# Altium integrated library Microchip Microcontroller 8-Bit PIC16.IntLib: 1529 symbols (part 37 of 55)
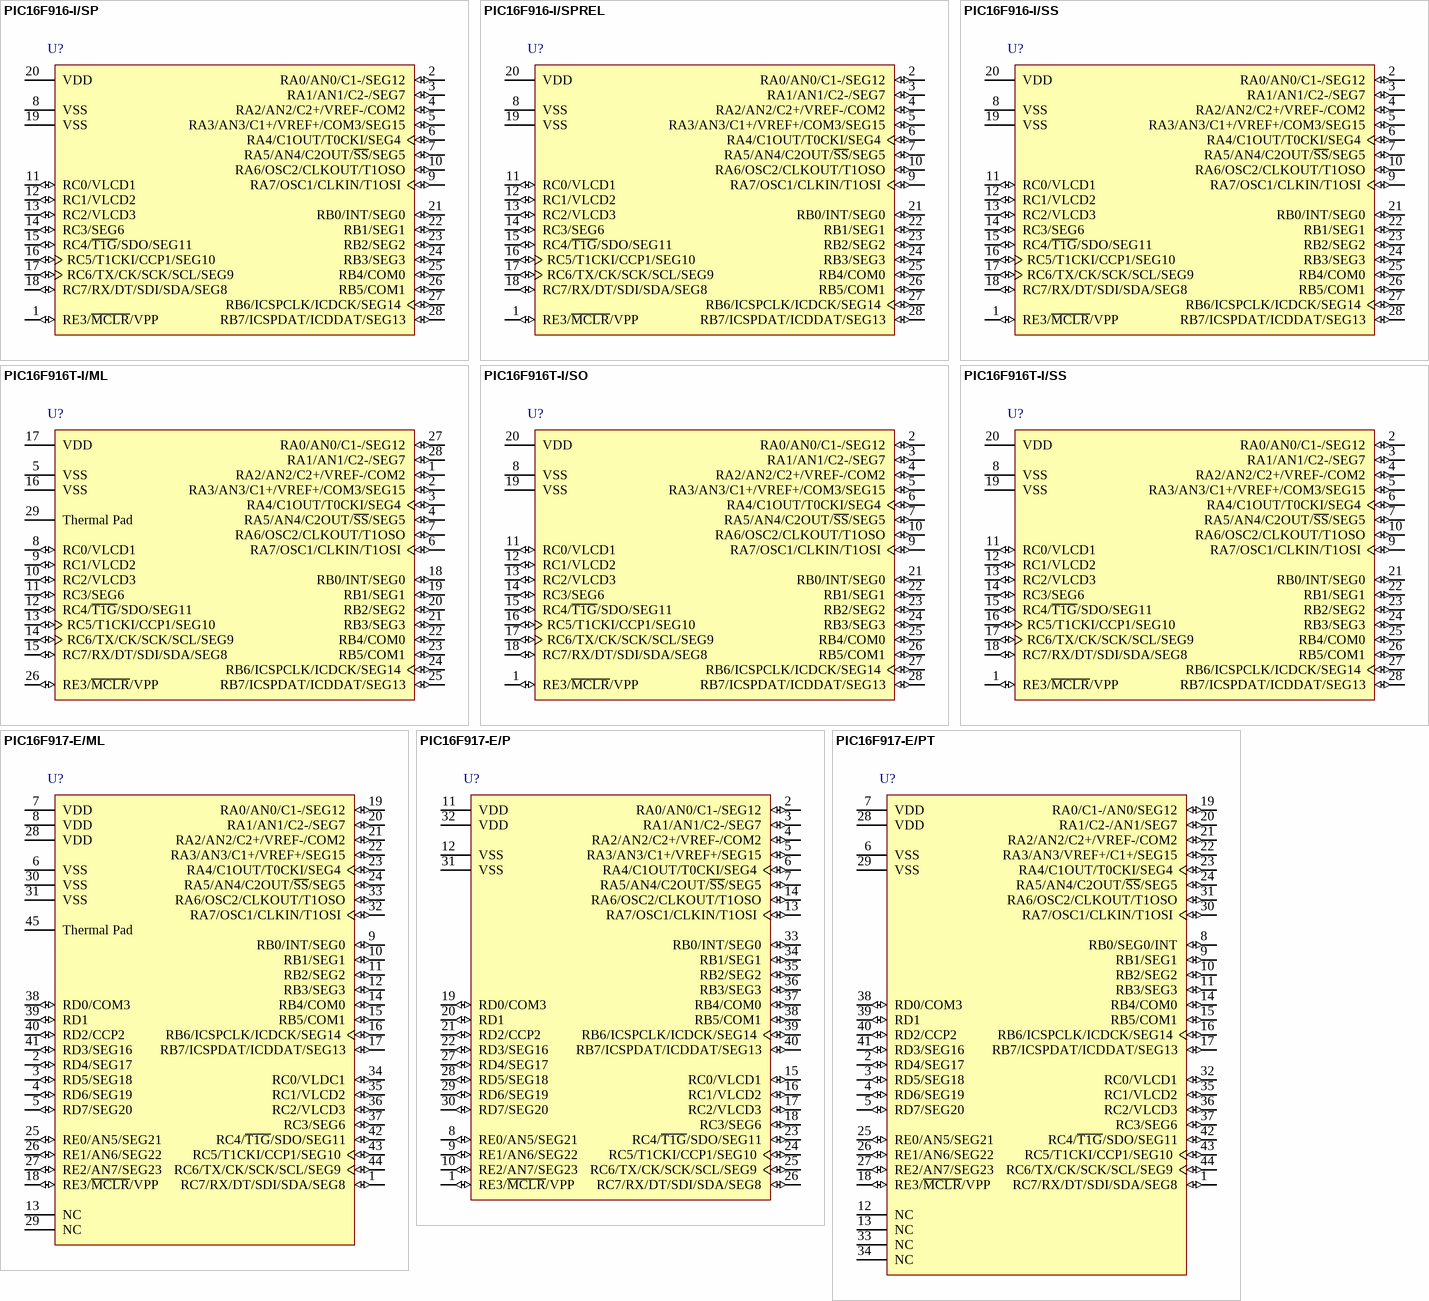
[diagram p154: symbols PIC16F916-I/SP to PIC16F917-E/PT]

## PIC16F917-E/ML
designator U?
Flash-Based, 8-Bit CMOS Microcontroller with LCD Driver and nanoWatt Technology, 8K (x14-Bit words) Program Memory, 608 Bytes Data Memory, 35 I/O pins, 44-Pin QFN, Standard VDD Range, Extended Temperature; Published: 29-Jan-2009; DatasheetVersion: revF, May-2007; PackageVersion: revBB, Aug-2009; PackageReference: QFN-ML44; Publisher: Altium Limited; PackageDescription: 44-Lead Plastic Quad Flat, No Lead Package (ML) - 8x8 mm Body [QFN]; Supplier 1: Digi-Key; Supplier Part Number 1: PIC16F917-E/ML-ND; Code_JEDEC: MO-220; Code_IPC: QFN65P800X800-44V2; ComponentLink1Description: Datasheet; ComponentLink1URL: http://ww1.microchip.com/downloads/en/DeviceDoc/41250F.pdf; ComponentLink2Description: Packaging Specification; ComponentLink2URL: http://www.microchip.com/stellent/groups/techpub_sg/documents/packagingspec/en012702.pdf; ComponentLink3Description: Microchip.com Home; ComponentLink3URL: http://www.microchip.com/
footprint QFN-ML44_N (QFN, 44-Leads, Body 8x8 mm, Pitch 0.65mm, IPC Medium Density)
footprint QFN-ML44_L (QFN, 44-Leads, Body 8x8 mm, Pitch 0.65mm, IPC High Density)
footprint QFN-ML44_M (QFN, 44-Leads, Body 8x8 mm, Pitch 0.65mm, IPC Low Density)
pins: 1 RC7/RX/DT/SDI/SDA/SEG8 (io), 2 RD4/SEG17 (io), 3 RD5/SEG18 (io), 4 RD6/SEG19 (io), 5 RD7/SEG20 (io), 6 VSS (power), 7 VDD (power), 8 VDD (power), 9 RB0/INT/SEG0 (io), 10 RB1/SEG1 (io), 11 RB2/SEG2 (io), 12 RB3/SEG3 (io), 13 NC, 14 RB4/COM0 (io), 15 RB5/COM1 (io), 16 RB6/ICSPCLK/ICDCK/SEG14 (io), 17 RB7/ICSPDAT/ICDDAT/SEG13 (io), 18 RE3/~{MCLR}/VPP (io), 19 RA0/AN0/C1-/SEG12 (io), 20 RA1/AN1/C2-/SEG7 (io), 21 RA2/AN2/C2+/VREF-/COM2 (io), 22 RA3/AN3/C1+/VREF+/SEG15 (io), 23 RA4/C1OUT/T0CKI/SEG4 (io), 24 RA5/AN4/C2OUT/~{SS}/SEG5 (io), 25 RE0/AN5/SEG21 (io), 26 RE1/AN6/SEG22 (io), 27 RE2/AN7/SEG23 (io), 28 VDD (power), 29 NC, 30 VSS (power), 31 VSS (power), 32 RA7/OSC1/CLKIN/T1OSI (io), 33 RA6/OSC2/CLKOUT/T1OSO (io), 34 RC0/VLDC1 (io), 35 RC1/VLCD2 (io), 36 RC2/VLCD3 (io), 37 RC3/SEG6 (io), 38 RD0/COM3 (io), 39 RD1 (io), 40 RD2/CCP2 (io), 41 RD3/SEG16 (io), 42 RC4/~{T1G}/SDO/SEG11 (io), 43 RC5/T1CKI/CCP1/SEG10 (io), 44 RC6/TX/CK/SCK/SCL/SEG9 (io), 45 Thermal Pad

## PIC16F917-E/P
designator U?
Flash-Based, 8-Bit CMOS Microcontroller with LCD Driver and nanoWatt Technology, 8K (x14-Bit words) Program Memory, 608 Bytes Data Memory, 35 I/O pins, 40-Pin PDIP, Standard VDD Range, Extended Temperature; Published: 29-Jan-2009; DatasheetVersion: revF, May-2007; PackageVersion: revBB, Aug-2009; PackageReference: PDIP600-P40; Publisher: Altium Limited; PackageDescription: 40-Lead Plastic Dual In-Line (P) - 600 mil Body [PDIP]; Supplier 1: Digi-Key; Supplier Part Number 1: PIC16F917-E/P-ND; ComponentLink1Description: Datasheet; ComponentLink1URL: http://ww1.microchip.com/downloads/en/DeviceDoc/41250F.pdf; ComponentLink2Description: Packaging Specification; ComponentLink2URL: http://www.microchip.com/stellent/groups/techpub_sg/documents/packagingspec/en012702.pdf; ComponentLink3Description: Microchip.com Home; ComponentLink3URL: http://www.microchip.com/
footprint PDIP600-P40 (DIP, 40-Leads, Row Spacing 15.24mm, Pitch 2.54mm, Body 51.8x13.5mm)
pins: 1 RE3/~{MCLR}/VPP (io), 2 RA0/AN0/C1-/SEG12 (io), 3 RA1/AN1/C2-/SEG7 (io), 4 RA2/AN2/C2+/VREF-/COM2 (io), 5 RA3/AN3/C1+/VREF+/SEG15 (io), 6 RA4/C1OUT/T0CKI/SEG4 (io), 7 RA5/AN4/C2OUT/~{SS}/SEG5 (io), 8 RE0/AN5/SEG21 (io), 9 RE1/AN6/SEG22 (io), 10 RE2/AN7/SEG23 (io), 11 VDD (power), 12 VSS (power), 13 RA7/OSC1/CLKIN/T1OSI (io), 14 RA6/OSC2/CLKOUT/T1OSO (io), 15 RC0/VLCD1 (io), 16 RC1/VLCD2 (io), 17 RC2/VLCD3 (io), 18 RC3/SEG6 (io), 19 RD0/COM3 (io), 20 RD1 (io), 21 RD2/CCP2 (io), 22 RD3/SEG16 (io), 23 RC4/~{T1G}/SDO/SEG11 (io), 24 RC5/T1CKI/CCP1/SEG10 (io), 25 RC6/TX/CK/SCK/SCL/SEG9 (io), 26 RC7/RX/DT/SDI/SDA/SEG8 (io), 27 RD4/SEG17 (io), 28 RD5/SEG18 (io), 29 RD6/SEG19 (io), 30 RD7/SEG20 (io), 31 VSS (power), 32 VDD (power), 33 RB0/INT/SEG0 (io), 34 RB1/SEG1 (io), 35 RB2/SEG2 (io), 36 RB3/SEG3 (io), 37 RB4/COM0 (io), 38 RB5/COM1 (io), 39 RB6/ICSPCLK/ICDCK/SEG14 (io), 40 RB7/ICSPDAT/ICDDAT/SEG13 (io)

## PIC16F917-E/PT
designator U?
Flash-Based, 8-Bit CMOS Microcontroller with LCD Driver and nanoWatt Technology, 8K (x14-Bit words) Program Memory, 608 Bytes Data Memory, 35 I/O pins, 44-Pin TQFP, Standard VDD Range, Extended Temperature; Published: 29-Jan-2009; DatasheetVersion: revF, May-2007; PackageVersion: revBB, Aug-2009; PackageReference: TQFP-PT44; Publisher: Altium Limited; PackageDescription: 44-Lead Plastic Thin Quad Flatpack (PT) - 10x10x1mm Body, 2.00mm [TQFP]; Supplier 1: Digi-Key; Supplier Part Number 1: PIC16F917-E/PT-ND; Code_JEDEC: MS-026; ComponentLink1Description: Datasheet; ComponentLink1URL: http://ww1.microchip.com/downloads/en/DeviceDoc/41250F.pdf; ComponentLink2Description: Packaging Specification; ComponentLink2URL: http://www.microchip.com/stellent/groups/techpub_sg/documents/packagingspec/en012702.pdf; ComponentLink3Description: Microchip.com Home; ComponentLink3URL: http://www.microchip.com/
footprint TQFP-PT44_N (Thin QFP, 44-Leads, Body 10x10mm, Pitch 0.8mm, IPC Medium Density)
footprint TQFP-PT44_L (Thin QFP, 44-Leads, Body 10x10mm, Pitch 0.8mm, IPC High Density)
footprint TQFP-PT44_M (Thin QFP, 44-Leads, Body 10x10mm, Pitch 0.8mm, IPC Low Density)
pins: 1 RC7/RX/DT/SDI/SDA/SEG8 (io), 2 RD4/SEG17 (io), 3 RD5/SEG18 (io), 4 RD6/SEG19 (io), 5 RD7/SEG20 (io), 6 VSS (power), 7 VDD (power), 8 RB0/SEG0/INT (io), 9 RB1/SEG1 (io), 10 RB2/SEG2 (io), 11 RB3/SEG3 (io), 12 NC, 13 NC, 14 RB4/COM0 (io), 15 RB5/COM1 (io), 16 RB6/ICSPCLK/ICDCK/SEG14 (io), 17 RB7/ICSPDAT/ICDDAT/SEG13 (io), 18 RE3/~{MCLR}/VPP (io), 19 RA0/C1-/AN0/SEG12 (io), 20 RA1/C2-/AN1/SEG7 (io), 21 RA2/AN2/C2+/VREF-/COM2 (io), 22 RA3/AN3/VREF+/C1+/SEG15 (io), 23 RA4/C1OUT/T0CKI/SEG4 (io), 24 RA5/AN4/C2OUT/~{SS}/SEG5 (io), 25 RE0/AN5/SEG21 (io), 26 RE1/AN6/SEG22 (io), 27 RE2/AN7/SEG23 (io), 28 VDD (power), 29 VSS (power), 30 RA7/OSC1/CLKIN/T1OSI (io), 31 RA6/OSC2/CLKOUT/T1OSO (io), 32 RC0/VLCD1 (io), 33 NC, 34 NC, 35 RC1/VLCD2 (io), 36 RC2/VLCD3 (io), 37 RC3/SEG6 (io), 38 RD0/COM3 (io), 39 RD1 (io), 40 RD2/CCP2 (io), 41 RD3/SEG16 (io), 42 RC4/~{T1G}/SDO/SEG11 (io), 43 RC5/T1CKI/CCP1/SEG10 (io), 44 RC6/TX/CK/SCK/SCL/SEG9 (io)

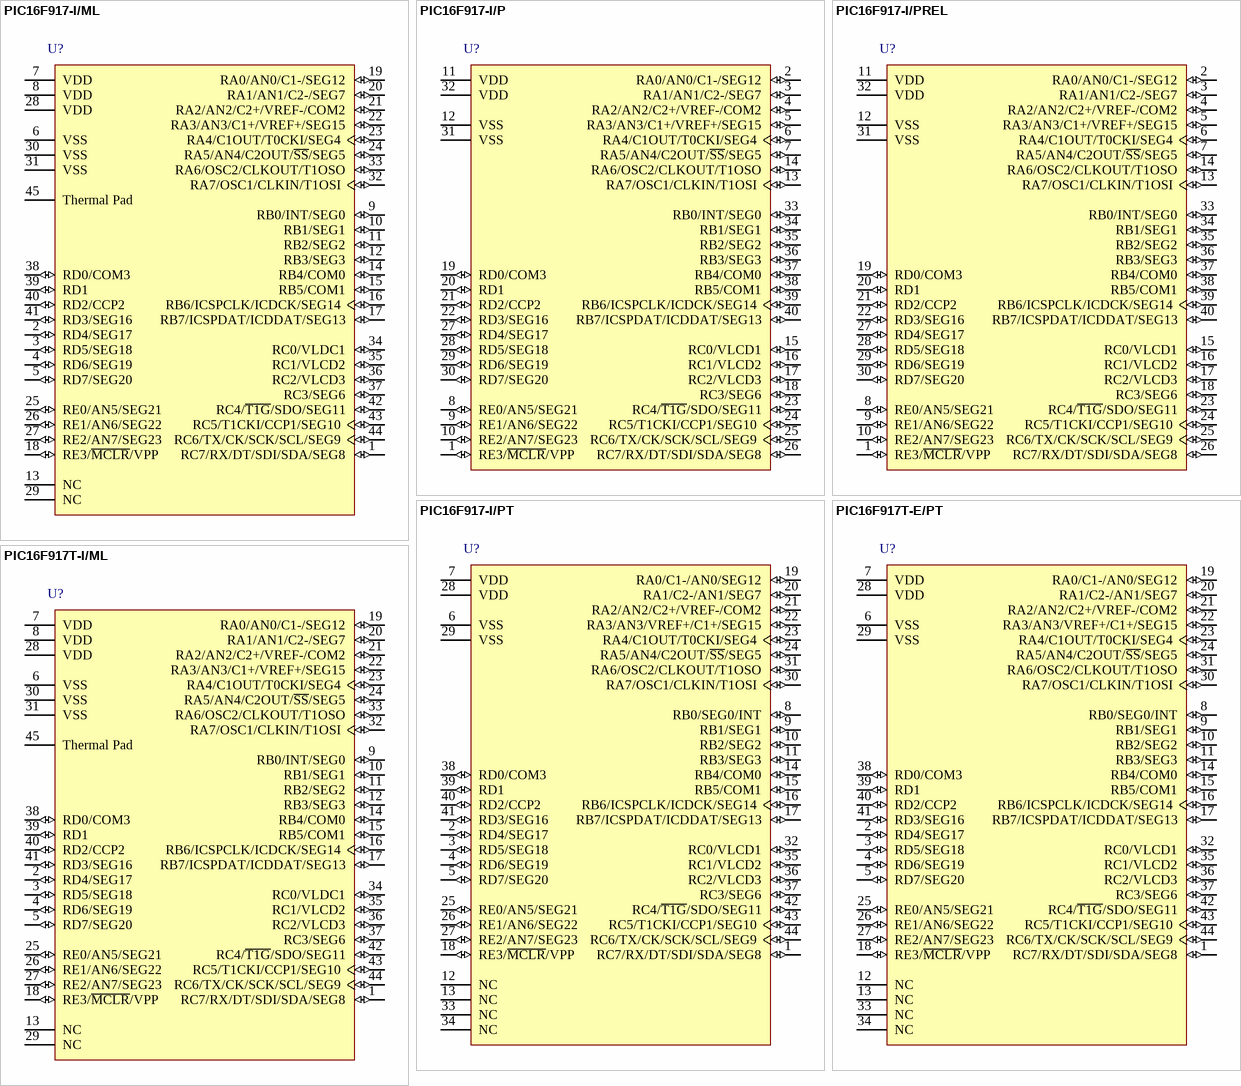
[diagram p75: symbols PIC16F917-I/ML to PIC16F917T-I/ML]

## PIC16F917-I/ML
designator U?
Flash-Based, 8-Bit CMOS Microcontroller with LCD Driver and nanoWatt Technology, 8K (x14-Bit words) Program Memory, 608 Bytes Data Memory, 35 I/O pins, 44-Pin QFN, Standard VDD Range, Industrial Temperature; Published: 29-Jan-2009; DatasheetVersion: revF, May-2007; PackageVersion: revBB, Aug-2009; PackageReference: QFN-ML44; Publisher: Altium Limited; PackageDescription: 44-Lead Plastic Quad Flat, No Lead Package (ML) - 8x8 mm Body [QFN]; Supplier 1: Digi-Key; Supplier Part Number 1: PIC16F917-I/ML-ND; Supplier 2: Farnell; Supplier Part Number 2: 1617660; Code_JEDEC: MO-220; Code_IPC: QFN65P800X800-44V2; ComponentLink1Description: Datasheet; ComponentLink1URL: http://ww1.microchip.com/downloads/en/DeviceDoc/41250F.pdf; ComponentLink2Description: Packaging Specification; ComponentLink2URL: http://www.microchip.com/stellent/groups/techpub_sg/documents/packagingspec/en012702.pdf; ComponentLink3Description: Microchip.com Home; ComponentLink3URL: http://www.microchip.com/
footprint QFN-ML44_N (QFN, 44-Leads, Body 8x8 mm, Pitch 0.65mm, IPC Medium Density)
footprint QFN-ML44_L (QFN, 44-Leads, Body 8x8 mm, Pitch 0.65mm, IPC High Density)
footprint QFN-ML44_M (QFN, 44-Leads, Body 8x8 mm, Pitch 0.65mm, IPC Low Density)
pins: 1 RC7/RX/DT/SDI/SDA/SEG8 (io), 2 RD4/SEG17 (io), 3 RD5/SEG18 (io), 4 RD6/SEG19 (io), 5 RD7/SEG20 (io), 6 VSS (power), 7 VDD (power), 8 VDD (power), 9 RB0/INT/SEG0 (io), 10 RB1/SEG1 (io), 11 RB2/SEG2 (io), 12 RB3/SEG3 (io), 13 NC, 14 RB4/COM0 (io), 15 RB5/COM1 (io), 16 RB6/ICSPCLK/ICDCK/SEG14 (io), 17 RB7/ICSPDAT/ICDDAT/SEG13 (io), 18 RE3/~{MCLR}/VPP (io), 19 RA0/AN0/C1-/SEG12 (io), 20 RA1/AN1/C2-/SEG7 (io), 21 RA2/AN2/C2+/VREF-/COM2 (io), 22 RA3/AN3/C1+/VREF+/SEG15 (io), 23 RA4/C1OUT/T0CKI/SEG4 (io), 24 RA5/AN4/C2OUT/~{SS}/SEG5 (io), 25 RE0/AN5/SEG21 (io), 26 RE1/AN6/SEG22 (io), 27 RE2/AN7/SEG23 (io), 28 VDD (power), 29 NC, 30 VSS (power), 31 VSS (power), 32 RA7/OSC1/CLKIN/T1OSI (io), 33 RA6/OSC2/CLKOUT/T1OSO (io), 34 RC0/VLDC1 (io), 35 RC1/VLCD2 (io), 36 RC2/VLCD3 (io), 37 RC3/SEG6 (io), 38 RD0/COM3 (io), 39 RD1 (io), 40 RD2/CCP2 (io), 41 RD3/SEG16 (io), 42 RC4/~{T1G}/SDO/SEG11 (io), 43 RC5/T1CKI/CCP1/SEG10 (io), 44 RC6/TX/CK/SCK/SCL/SEG9 (io), 45 Thermal Pad

## PIC16F917-I/P
designator U?
Flash-Based, 8-Bit CMOS Microcontroller with LCD Driver and nanoWatt Technology, 8K (x14-Bit words) Program Memory, 608 Bytes Data Memory, 35 I/O pins, 40-Pin PDIP, Standard VDD Range, Industrial Temperature; Published: 29-Jan-2009; DatasheetVersion: revF, May-2007; PackageVersion: revBB, Aug-2009; PackageReference: PDIP600-P40; Publisher: Altium Limited; PackageDescription: 40-Lead Plastic Dual In-Line (P) - 600 mil Body [PDIP]; Supplier 1: Digi-Key; Supplier Part Number 1: PIC16F917-I/P-ND; Supplier 2: Farnell; Supplier Part Number 2: 1292270; ComponentLink1Description: Datasheet; ComponentLink1URL: http://ww1.microchip.com/downloads/en/DeviceDoc/41250F.pdf; ComponentLink2Description: Packaging Specification; ComponentLink2URL: http://www.microchip.com/stellent/groups/techpub_sg/documents/packagingspec/en012702.pdf; ComponentLink3Description: Microchip.com Home; ComponentLink3URL: http://www.microchip.com/
footprint PDIP600-P40 (DIP, 40-Leads, Row Spacing 15.24mm, Pitch 2.54mm, Body 51.8x13.5mm)
pins: 1 RE3/~{MCLR}/VPP (io), 2 RA0/AN0/C1-/SEG12 (io), 3 RA1/AN1/C2-/SEG7 (io), 4 RA2/AN2/C2+/VREF-/COM2 (io), 5 RA3/AN3/C1+/VREF+/SEG15 (io), 6 RA4/C1OUT/T0CKI/SEG4 (io), 7 RA5/AN4/C2OUT/~{SS}/SEG5 (io), 8 RE0/AN5/SEG21 (io), 9 RE1/AN6/SEG22 (io), 10 RE2/AN7/SEG23 (io), 11 VDD (power), 12 VSS (power), 13 RA7/OSC1/CLKIN/T1OSI (io), 14 RA6/OSC2/CLKOUT/T1OSO (io), 15 RC0/VLCD1 (io), 16 RC1/VLCD2 (io), 17 RC2/VLCD3 (io), 18 RC3/SEG6 (io), 19 RD0/COM3 (io), 20 RD1 (io), 21 RD2/CCP2 (io), 22 RD3/SEG16 (io), 23 RC4/~{T1G}/SDO/SEG11 (io), 24 RC5/T1CKI/CCP1/SEG10 (io), 25 RC6/TX/CK/SCK/SCL/SEG9 (io), 26 RC7/RX/DT/SDI/SDA/SEG8 (io), 27 RD4/SEG17 (io), 28 RD5/SEG18 (io), 29 RD6/SEG19 (io), 30 RD7/SEG20 (io), 31 VSS (power), 32 VDD (power), 33 RB0/INT/SEG0 (io), 34 RB1/SEG1 (io), 35 RB2/SEG2 (io), 36 RB3/SEG3 (io), 37 RB4/COM0 (io), 38 RB5/COM1 (io), 39 RB6/ICSPCLK/ICDCK/SEG14 (io), 40 RB7/ICSPDAT/ICDDAT/SEG13 (io)

## PIC16F917-I/PREL
designator U?
Flash-Based, 8-Bit CMOS Microcontroller with LCD Driver and nanoWatt Technology, 8K (x14-Bit words) Program Memory, 608 Bytes Data Memory, 35 I/O pins, 40-Pin PDIP, Standard VDD Range, Industrial Temperature; ComponentAvailability: Unknown. Contact manufacturer to determine status.; Published: 29-Jan-2009; DatasheetVersion: revF, May-2007; PackageVersion: revBB, Aug-2009; PackageReference: PDIP600-P40; Publisher: Altium Limited; PackageDescription: 40-Lead Plastic Dual In-Line (P) - 600 mil Body [PDIP]; ComponentLink1Description: Datasheet; ComponentLink1URL: http://ww1.microchip.com/downloads/en/DeviceDoc/41250F.pdf; ComponentLink2Description: Packaging Specification; ComponentLink2URL: http://www.microchip.com/stellent/groups/techpub_sg/documents/packagingspec/en012702.pdf; ComponentLink3Description: Microchip.com Home; ComponentLink3URL: http://www.microchip.com/
footprint PDIP600-P40 (DIP, 40-Leads, Row Spacing 15.24mm, Pitch 2.54mm, Body 51.8x13.5mm)
pins: 1 RE3/~{MCLR}/VPP (io), 2 RA0/AN0/C1-/SEG12 (io), 3 RA1/AN1/C2-/SEG7 (io), 4 RA2/AN2/C2+/VREF-/COM2 (io), 5 RA3/AN3/C1+/VREF+/SEG15 (io), 6 RA4/C1OUT/T0CKI/SEG4 (io), 7 RA5/AN4/C2OUT/~{SS}/SEG5 (io), 8 RE0/AN5/SEG21 (io), 9 RE1/AN6/SEG22 (io), 10 RE2/AN7/SEG23 (io), 11 VDD (power), 12 VSS (power), 13 RA7/OSC1/CLKIN/T1OSI (io), 14 RA6/OSC2/CLKOUT/T1OSO (io), 15 RC0/VLCD1 (io), 16 RC1/VLCD2 (io), 17 RC2/VLCD3 (io), 18 RC3/SEG6 (io), 19 RD0/COM3 (io), 20 RD1 (io), 21 RD2/CCP2 (io), 22 RD3/SEG16 (io), 23 RC4/~{T1G}/SDO/SEG11 (io), 24 RC5/T1CKI/CCP1/SEG10 (io), 25 RC6/TX/CK/SCK/SCL/SEG9 (io), 26 RC7/RX/DT/SDI/SDA/SEG8 (io), 27 RD4/SEG17 (io), 28 RD5/SEG18 (io), 29 RD6/SEG19 (io), 30 RD7/SEG20 (io), 31 VSS (power), 32 VDD (power), 33 RB0/INT/SEG0 (io), 34 RB1/SEG1 (io), 35 RB2/SEG2 (io), 36 RB3/SEG3 (io), 37 RB4/COM0 (io), 38 RB5/COM1 (io), 39 RB6/ICSPCLK/ICDCK/SEG14 (io), 40 RB7/ICSPDAT/ICDDAT/SEG13 (io)

## PIC16F917-I/PT
designator U?
Flash-Based, 8-Bit CMOS Microcontroller with LCD Driver and nanoWatt Technology, 8K (x14-Bit words) Program Memory, 608 Bytes Data Memory, 35 I/O pins, 44-Pin TQFP, Standard VDD Range, Industrial Temperature; Published: 29-Jan-2009; DatasheetVersion: revF, May-2007; PackageVersion: revBB, Aug-2009; PackageReference: TQFP-PT44; Publisher: Altium Limited; PackageDescription: 44-Lead Plastic Thin Quad Flatpack (PT) - 10x10x1mm Body, 2.00mm [TQFP]; Supplier 1: Digi-Key; Supplier Part Number 1: PIC16F917-I/PT-ND; Supplier 2: Farnell; Supplier Part Number 2: 1528390; Supplier 3: Farnell; Supplier Part Number 3: 1292271; Code_JEDEC: MS-026; ComponentLink1Description: Datasheet; ComponentLink1URL: http://ww1.microchip.com/downloads/en/DeviceDoc/41250F.pdf; ComponentLink2Description: Packaging Specification; ComponentLink2URL: http://www.microchip.com/stellent/groups/techpub_sg/documents/packagingspec/en012702.pdf; ComponentLink3Description: Microchip.com Home; ComponentLink3URL: http://www.microchip.com/
footprint TQFP-PT44_N (Thin QFP, 44-Leads, Body 10x10mm, Pitch 0.8mm, IPC Medium Density)
footprint TQFP-PT44_L (Thin QFP, 44-Leads, Body 10x10mm, Pitch 0.8mm, IPC High Density)
footprint TQFP-PT44_M (Thin QFP, 44-Leads, Body 10x10mm, Pitch 0.8mm, IPC Low Density)
pins: 1 RC7/RX/DT/SDI/SDA/SEG8 (io), 2 RD4/SEG17 (io), 3 RD5/SEG18 (io), 4 RD6/SEG19 (io), 5 RD7/SEG20 (io), 6 VSS (power), 7 VDD (power), 8 RB0/SEG0/INT (io), 9 RB1/SEG1 (io), 10 RB2/SEG2 (io), 11 RB3/SEG3 (io), 12 NC, 13 NC, 14 RB4/COM0 (io), 15 RB5/COM1 (io), 16 RB6/ICSPCLK/ICDCK/SEG14 (io), 17 RB7/ICSPDAT/ICDDAT/SEG13 (io), 18 RE3/~{MCLR}/VPP (io), 19 RA0/C1-/AN0/SEG12 (io), 20 RA1/C2-/AN1/SEG7 (io), 21 RA2/AN2/C2+/VREF-/COM2 (io), 22 RA3/AN3/VREF+/C1+/SEG15 (io), 23 RA4/C1OUT/T0CKI/SEG4 (io), 24 RA5/AN4/C2OUT/~{SS}/SEG5 (io), 25 RE0/AN5/SEG21 (io), 26 RE1/AN6/SEG22 (io), 27 RE2/AN7/SEG23 (io), 28 VDD (power), 29 VSS (power), 30 RA7/OSC1/CLKIN/T1OSI (io), 31 RA6/OSC2/CLKOUT/T1OSO (io), 32 RC0/VLCD1 (io), 33 NC, 34 NC, 35 RC1/VLCD2 (io), 36 RC2/VLCD3 (io), 37 RC3/SEG6 (io), 38 RD0/COM3 (io), 39 RD1 (io), 40 RD2/CCP2 (io), 41 RD3/SEG16 (io), 42 RC4/~{T1G}/SDO/SEG11 (io), 43 RC5/T1CKI/CCP1/SEG10 (io), 44 RC6/TX/CK/SCK/SCL/SEG9 (io)

## PIC16F917T-E/PT
designator U?
Flash-Based, 8-Bit CMOS Microcontroller with LCD Driver and nanoWatt Technology, 8K (x14-Bit words) Program Memory, 608 Bytes Data Memory, 35 I/O pins, 44-Pin TQFP, Standard VDD Range, Extended Temperature, Tape and Reel; Published: 29-Jan-2009; DatasheetVersion: revF, May-2007; PackageVersion: revBB, Aug-2009; PackageReference: TQFP-PT44; Publisher: Altium Limited; PackageDescription: 44-Lead Plastic Thin Quad Flatpack (PT) - 10x10x1mm Body, 2.00mm [TQFP]; Code_JEDEC: MS-026; ComponentLink1Description: Datasheet; ComponentLink1URL: http://ww1.microchip.com/downloads/en/DeviceDoc/41250F.pdf; ComponentLink2Description: Packaging Specification; ComponentLink2URL: http://www.microchip.com/stellent/groups/techpub_sg/documents/packagingspec/en012702.pdf; ComponentLink3Description: Microchip.com Home; ComponentLink3URL: http://www.microchip.com/
footprint TQFP-PT44_N (Thin QFP, 44-Leads, Body 10x10mm, Pitch 0.8mm, IPC Medium Density)
footprint TQFP-PT44_L (Thin QFP, 44-Leads, Body 10x10mm, Pitch 0.8mm, IPC High Density)
footprint TQFP-PT44_M (Thin QFP, 44-Leads, Body 10x10mm, Pitch 0.8mm, IPC Low Density)
pins: 1 RC7/RX/DT/SDI/SDA/SEG8 (io), 2 RD4/SEG17 (io), 3 RD5/SEG18 (io), 4 RD6/SEG19 (io), 5 RD7/SEG20 (io), 6 VSS (power), 7 VDD (power), 8 RB0/SEG0/INT (io), 9 RB1/SEG1 (io), 10 RB2/SEG2 (io), 11 RB3/SEG3 (io), 12 NC, 13 NC, 14 RB4/COM0 (io), 15 RB5/COM1 (io), 16 RB6/ICSPCLK/ICDCK/SEG14 (io), 17 RB7/ICSPDAT/ICDDAT/SEG13 (io), 18 RE3/~{MCLR}/VPP (io), 19 RA0/C1-/AN0/SEG12 (io), 20 RA1/C2-/AN1/SEG7 (io), 21 RA2/AN2/C2+/VREF-/COM2 (io), 22 RA3/AN3/VREF+/C1+/SEG15 (io), 23 RA4/C1OUT/T0CKI/SEG4 (io), 24 RA5/AN4/C2OUT/~{SS}/SEG5 (io), 25 RE0/AN5/SEG21 (io), 26 RE1/AN6/SEG22 (io), 27 RE2/AN7/SEG23 (io), 28 VDD (power), 29 VSS (power), 30 RA7/OSC1/CLKIN/T1OSI (io), 31 RA6/OSC2/CLKOUT/T1OSO (io), 32 RC0/VLCD1 (io), 33 NC, 34 NC, 35 RC1/VLCD2 (io), 36 RC2/VLCD3 (io), 37 RC3/SEG6 (io), 38 RD0/COM3 (io), 39 RD1 (io), 40 RD2/CCP2 (io), 41 RD3/SEG16 (io), 42 RC4/~{T1G}/SDO/SEG11 (io), 43 RC5/T1CKI/CCP1/SEG10 (io), 44 RC6/TX/CK/SCK/SCL/SEG9 (io)

## PIC16F917T-I/ML
designator U?
Flash-Based, 8-Bit CMOS Microcontroller with LCD Driver and nanoWatt Technology, 8K (x14-Bit words) Program Memory, 608 Bytes Data Memory, 35 I/O pins, 44-Pin QFN, Standard VDD Range, Industrial Temperature, Tape and Reel; Published: 29-Jan-2009; DatasheetVersion: revF, May-2007; PackageVersion: revBB, Aug-2009; PackageReference: QFN-ML44; Publisher: Altium Limited; PackageDescription: 44-Lead Plastic Quad Flat, No Lead Package (ML) - 8x8 mm Body [QFN]; Supplier 1: Digi-Key; Supplier Part Number 1: PIC16F917T-I/ML-ND; Code_JEDEC: MO-220; Code_IPC: QFN65P800X800-44V2; ComponentLink1Description: Datasheet; ComponentLink1URL: http://ww1.microchip.com/downloads/en/DeviceDoc/41250F.pdf; ComponentLink2Description: Packaging Specification; ComponentLink2URL: http://www.microchip.com/stellent/groups/techpub_sg/documents/packagingspec/en012702.pdf; ComponentLink3Description: Microchip.com Home; ComponentLink3URL: http://www.microchip.com/
footprint QFN-ML44_N (QFN, 44-Leads, Body 8x8 mm, Pitch 0.65mm, IPC Medium Density)
footprint QFN-ML44_L (QFN, 44-Leads, Body 8x8 mm, Pitch 0.65mm, IPC High Density)
footprint QFN-ML44_M (QFN, 44-Leads, Body 8x8 mm, Pitch 0.65mm, IPC Low Density)
pins: 1 RC7/RX/DT/SDI/SDA/SEG8 (io), 2 RD4/SEG17 (io), 3 RD5/SEG18 (io), 4 RD6/SEG19 (io), 5 RD7/SEG20 (io), 6 VSS (power), 7 VDD (power), 8 VDD (power), 9 RB0/INT/SEG0 (io), 10 RB1/SEG1 (io), 11 RB2/SEG2 (io), 12 RB3/SEG3 (io), 13 NC, 14 RB4/COM0 (io), 15 RB5/COM1 (io), 16 RB6/ICSPCLK/ICDCK/SEG14 (io), 17 RB7/ICSPDAT/ICDDAT/SEG13 (io), 18 RE3/~{MCLR}/VPP (io), 19 RA0/AN0/C1-/SEG12 (io), 20 RA1/AN1/C2-/SEG7 (io), 21 RA2/AN2/C2+/VREF-/COM2 (io), 22 RA3/AN3/C1+/VREF+/SEG15 (io), 23 RA4/C1OUT/T0CKI/SEG4 (io), 24 RA5/AN4/C2OUT/~{SS}/SEG5 (io), 25 RE0/AN5/SEG21 (io), 26 RE1/AN6/SEG22 (io), 27 RE2/AN7/SEG23 (io), 28 VDD (power), 29 NC, 30 VSS (power), 31 VSS (power), 32 RA7/OSC1/CLKIN/T1OSI (io), 33 RA6/OSC2/CLKOUT/T1OSO (io), 34 RC0/VLDC1 (io), 35 RC1/VLCD2 (io), 36 RC2/VLCD3 (io), 37 RC3/SEG6 (io), 38 RD0/COM3 (io), 39 RD1 (io), 40 RD2/CCP2 (io), 41 RD3/SEG16 (io), 42 RC4/~{T1G}/SDO/SEG11 (io), 43 RC5/T1CKI/CCP1/SEG10 (io), 44 RC6/TX/CK/SCK/SCL/SEG9 (io), 45 Thermal Pad

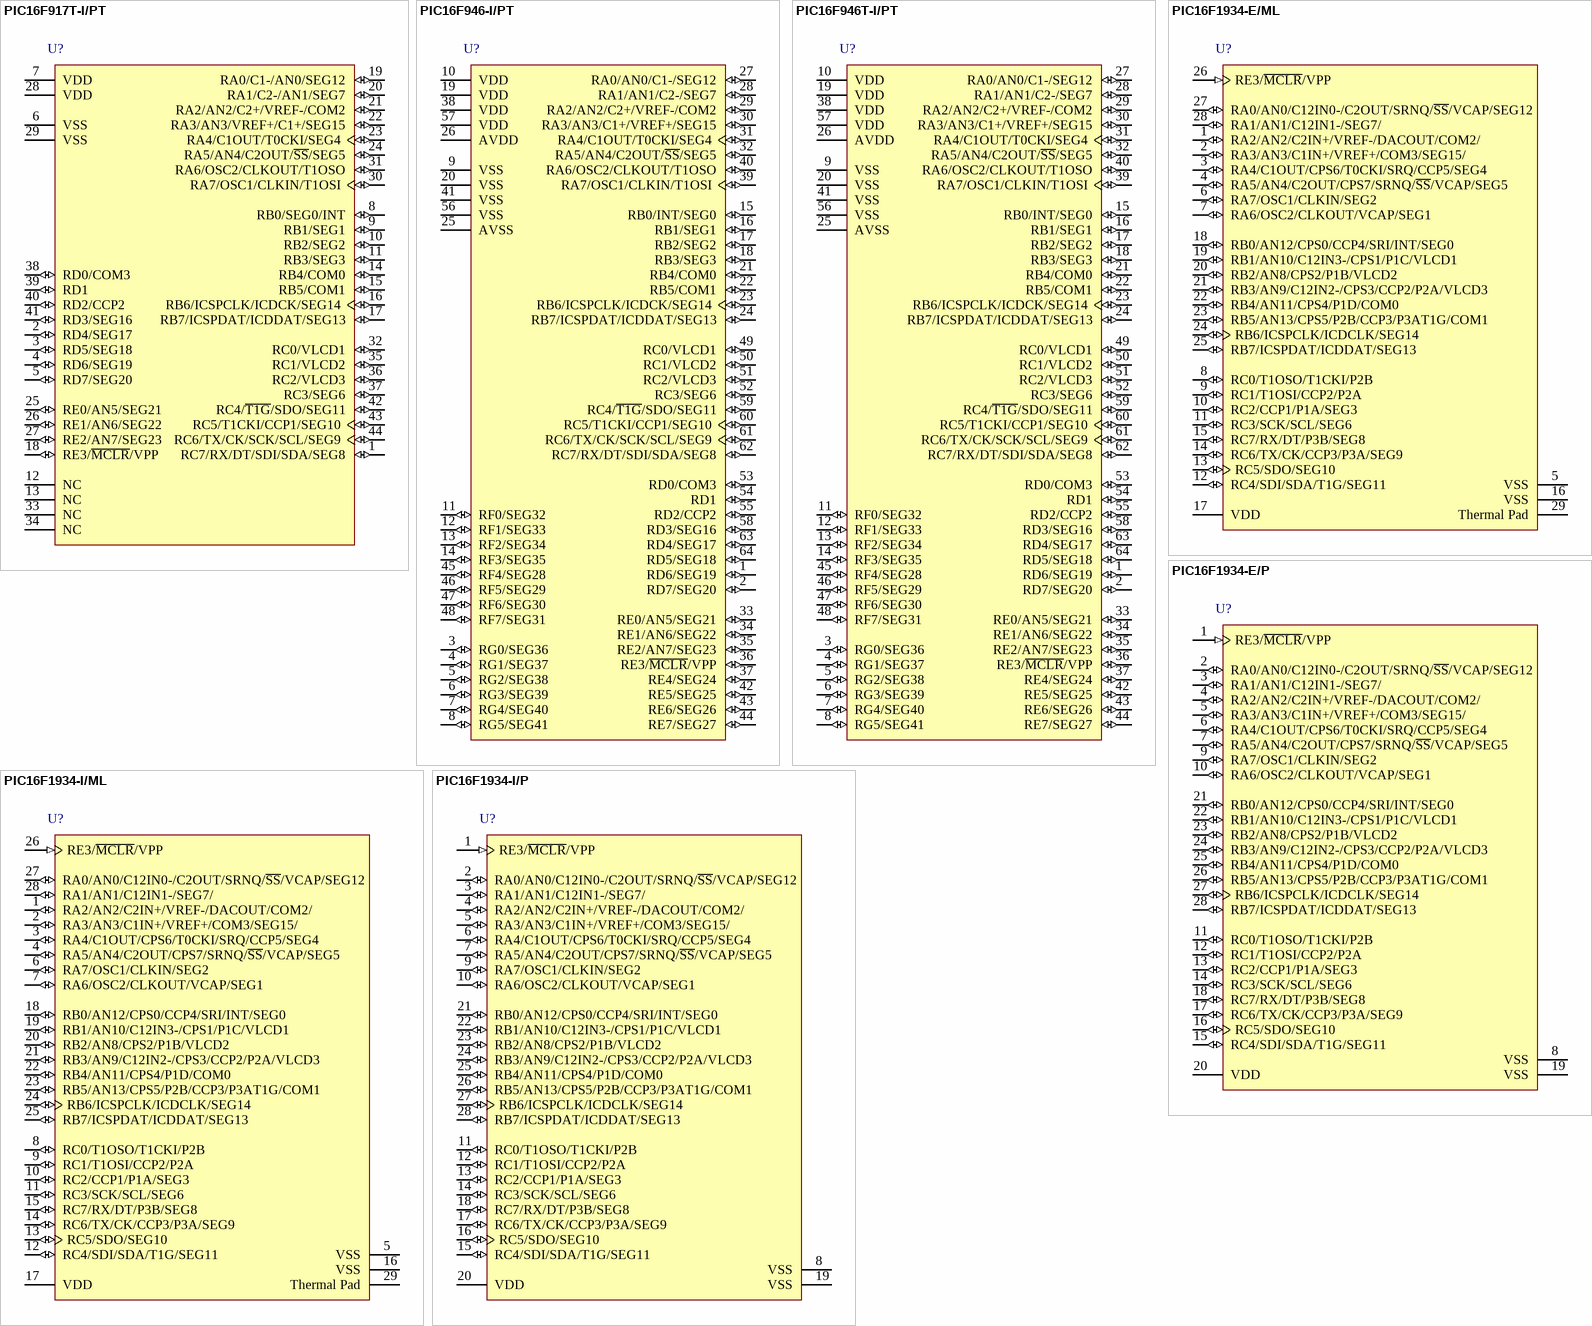
[diagram p76: symbols PIC16F917T-I/PT to PIC16F1934-I/P]

## PIC16F917T-I/PT
designator U?
Flash-Based, 8-Bit CMOS Microcontroller with LCD Driver and nanoWatt Technology, 8K (x14-Bit words) Program Memory, 608 Bytes Data Memory, 35 I/O pins, 44-Pin TQFP, Standard VDD Range, Industrial Temperature, Tape and Reel; Published: 29-Jan-2009; DatasheetVersion: revF, May-2007; PackageVersion: revBB, Aug-2009; PackageReference: TQFP-PT44; Publisher: Altium Limited; PackageDescription: 44-Lead Plastic Thin Quad Flatpack (PT) - 10x10x1mm Body, 2.00mm [TQFP]; Supplier 1: Digi-Key; Supplier Part Number 1: PIC16F917T-I/PT-ND; Code_JEDEC: MS-026; ComponentLink1Description: Datasheet; ComponentLink1URL: http://ww1.microchip.com/downloads/en/DeviceDoc/41250F.pdf; ComponentLink2Description: Packaging Specification; ComponentLink2URL: http://www.microchip.com/stellent/groups/techpub_sg/documents/packagingspec/en012702.pdf; ComponentLink3Description: Microchip.com Home; ComponentLink3URL: http://www.microchip.com/
footprint TQFP-PT44_N (Thin QFP, 44-Leads, Body 10x10mm, Pitch 0.8mm, IPC Medium Density)
footprint TQFP-PT44_L (Thin QFP, 44-Leads, Body 10x10mm, Pitch 0.8mm, IPC High Density)
footprint TQFP-PT44_M (Thin QFP, 44-Leads, Body 10x10mm, Pitch 0.8mm, IPC Low Density)
pins: 1 RC7/RX/DT/SDI/SDA/SEG8 (io), 2 RD4/SEG17 (io), 3 RD5/SEG18 (io), 4 RD6/SEG19 (io), 5 RD7/SEG20 (io), 6 VSS (power), 7 VDD (power), 8 RB0/SEG0/INT (io), 9 RB1/SEG1 (io), 10 RB2/SEG2 (io), 11 RB3/SEG3 (io), 12 NC, 13 NC, 14 RB4/COM0 (io), 15 RB5/COM1 (io), 16 RB6/ICSPCLK/ICDCK/SEG14 (io), 17 RB7/ICSPDAT/ICDDAT/SEG13 (io), 18 RE3/~{MCLR}/VPP (io), 19 RA0/C1-/AN0/SEG12 (io), 20 RA1/C2-/AN1/SEG7 (io), 21 RA2/AN2/C2+/VREF-/COM2 (io), 22 RA3/AN3/VREF+/C1+/SEG15 (io), 23 RA4/C1OUT/T0CKI/SEG4 (io), 24 RA5/AN4/C2OUT/~{SS}/SEG5 (io), 25 RE0/AN5/SEG21 (io), 26 RE1/AN6/SEG22 (io), 27 RE2/AN7/SEG23 (io), 28 VDD (power), 29 VSS (power), 30 RA7/OSC1/CLKIN/T1OSI (io), 31 RA6/OSC2/CLKOUT/T1OSO (io), 32 RC0/VLCD1 (io), 33 NC, 34 NC, 35 RC1/VLCD2 (io), 36 RC2/VLCD3 (io), 37 RC3/SEG6 (io), 38 RD0/COM3 (io), 39 RD1 (io), 40 RD2/CCP2 (io), 41 RD3/SEG16 (io), 42 RC4/~{T1G}/SDO/SEG11 (io), 43 RC5/T1CKI/CCP1/SEG10 (io), 44 RC6/TX/CK/SCK/SCL/SEG9 (io)

## PIC16F946-I/PT
designator U?
Flash-Based, 8-Bit CMOS Microcontroller with LCD Driver and nanoWatt Technology, 8K (x14-Bit words) Program Memory, 592 Bytes Data Memory, 53 I/O pins, 64-Pin TQFP, Standard VDD Range, Industrial Temperature; Published: 29-Jan-2009; DatasheetVersion: revF, May-2007; PackageVersion: revBB, Aug-2009; PackageReference: TQFP-PT64; Publisher: Altium Limited; PackageDescription: 64-Lead Thin Plastic Quad Flat Pack (PT) - 10x10x1mm Body, 2.00mm [TQFP]; Supplier 1: Digi-Key; Supplier Part Number 1: PIC16F946-I/PT-ND; Supplier 2: Farnell; Supplier Part Number 2: 1332219; Code_JEDEC: MS-026; ComponentLink1Description: Datasheet; ComponentLink1URL: http://ww1.microchip.com/downloads/en/DeviceDoc/41250F.pdf; ComponentLink2Description: Packaging Specification; ComponentLink2URL: http://www.microchip.com/stellent/groups/techpub_sg/documents/packagingspec/en012702.pdf; ComponentLink3Description: Microchip.com Home; ComponentLink3URL: http://www.microchip.com/
footprint TQFP-PT64_N (Thin QFP, 64-Leads, Body 10x10mm, Pitch 0.5mm, IPC Medium Density)
footprint TQFP-PT64_L (Thin QFP, 64-Leads, Body 10x10mm, Pitch 0.5mm, IPC High Density)
footprint TQFP-PT64_M (Thin QFP, 64-Leads, Body 10x10mm, Pitch 0.5mm, IPC Low Density)
pins: 1 RD6/SEG19 (io), 2 RD7/SEG20 (io), 3 RG0/SEG36 (io), 4 RG1/SEG37 (io), 5 RG2/SEG38 (io), 6 RG3/SEG39 (io), 7 RG4/SEG40 (io), 8 RG5/SEG41 (io), 9 VSS (power), 10 VDD (power), 11 RF0/SEG32 (io), 12 RF1/SEG33 (io), 13 RF2/SEG34 (io), 14 RF3/SEG35 (io), 15 RB0/INT/SEG0 (io), 16 RB1/SEG1 (io), 17 RB2/SEG2 (io), 18 RB3/SEG3 (io), 19 VDD (power), 20 VSS (power), 21 RB4/COM0 (io), 22 RB5/COM1 (io), 23 RB6/ICSPCLK/ICDCK/SEG14 (io), 24 RB7/ICSPDAT/ICDDAT/SEG13 (io), 25 AVSS (power), 26 AVDD (power), 27 RA0/AN0/C1-/SEG12 (io), 28 RA1/AN1/C2-/SEG7 (io), 29 RA2/AN2/C2+/VREF-/COM2 (io), 30 RA3/AN3/C1+/VREF+/SEG15 (io), 31 RA4/C1OUT/T0CKI/SEG4 (io), 32 RA5/AN4/C2OUT/~{SS}/SEG5 (io), 33 RE0/AN5/SEG21 (io), 34 RE1/AN6/SEG22 (io), 35 RE2/AN7/SEG23 (io), 36 RE3/~{MCLR}/VPP (io), 37 RE4/SEG24 (io), 38 VDD (power), 39 RA7/OSC1/CLKIN/T1OSI (io), 40 RA6/OSC2/CLKOUT/T1OSO (io), 41 VSS (power), 42 RE5/SEG25 (io), 43 RE6/SEG26 (io), 44 RE7/SEG27 (io), 45 RF4/SEG28 (io), 46 RF5/SEG29 (io), 47 RF6/SEG30 (io), 48 RF7/SEG31 (io), 49 RC0/VLCD1 (io), 50 RC1/VLCD2 (io), 51 RC2/VLCD3 (io), 52 RC3/SEG6 (io), 53 RD0/COM3 (io), 54 RD1 (io), 55 RD2/CCP2 (io), 56 VSS (power), 57 VDD (power), 58 RD3/SEG16 (io), 59 RC4/~{T1G}/SDO/SEG11 (io), 60 RC5/T1CKI/CCP1/SEG10 (io), 61 RC6/TX/CK/SCK/SCL/SEG9 (io), 62 RC7/RX/DT/SDI/SDA/SEG8 (io), 63 RD4/SEG17 (io), 64 RD5/SEG18 (io)

## PIC16F946T-I/PT
designator U?
Flash-Based, 8-Bit CMOS Microcontroller with LCD Driver and nanoWatt Technology, 8K (x14-Bit words) Program Memory, 592 Bytes Data Memory, 53 I/O pins, 64-Pin TQFP, Standard VDD Range, Industrial Temperature, Tape and Reel; Published: 29-Jan-2009; DatasheetVersion: revF, May-2007; PackageVersion: revBB, Aug-2009; PackageReference: TQFP-PT64; Publisher: Altium Limited; PackageDescription: 64-Lead Thin Plastic Quad Flat Pack (PT) - 10x10x1mm Body, 2.00mm [TQFP]; Supplier 1: Digi-Key; Supplier Part Number 1: PIC16F946T-I/PT-ND; Code_JEDEC: MS-026; ComponentLink1Description: Datasheet; ComponentLink1URL: http://ww1.microchip.com/downloads/en/DeviceDoc/41250F.pdf; ComponentLink2Description: Packaging Specification; ComponentLink2URL: http://www.microchip.com/stellent/groups/techpub_sg/documents/packagingspec/en012702.pdf; ComponentLink3Description: Microchip.com Home; ComponentLink3URL: http://www.microchip.com/
footprint TQFP-PT64_N (Thin QFP, 64-Leads, Body 10x10mm, Pitch 0.5mm, IPC Medium Density)
footprint TQFP-PT64_L (Thin QFP, 64-Leads, Body 10x10mm, Pitch 0.5mm, IPC High Density)
footprint TQFP-PT64_M (Thin QFP, 64-Leads, Body 10x10mm, Pitch 0.5mm, IPC Low Density)
pins: 1 RD6/SEG19 (io), 2 RD7/SEG20 (io), 3 RG0/SEG36 (io), 4 RG1/SEG37 (io), 5 RG2/SEG38 (io), 6 RG3/SEG39 (io), 7 RG4/SEG40 (io), 8 RG5/SEG41 (io), 9 VSS (power), 10 VDD (power), 11 RF0/SEG32 (io), 12 RF1/SEG33 (io), 13 RF2/SEG34 (io), 14 RF3/SEG35 (io), 15 RB0/INT/SEG0 (io), 16 RB1/SEG1 (io), 17 RB2/SEG2 (io), 18 RB3/SEG3 (io), 19 VDD (power), 20 VSS (power), 21 RB4/COM0 (io), 22 RB5/COM1 (io), 23 RB6/ICSPCLK/ICDCK/SEG14 (io), 24 RB7/ICSPDAT/ICDDAT/SEG13 (io), 25 AVSS (power), 26 AVDD (power), 27 RA0/AN0/C1-/SEG12 (io), 28 RA1/AN1/C2-/SEG7 (io), 29 RA2/AN2/C2+/VREF-/COM2 (io), 30 RA3/AN3/C1+/VREF+/SEG15 (io), 31 RA4/C1OUT/T0CKI/SEG4 (io), 32 RA5/AN4/C2OUT/~{SS}/SEG5 (io), 33 RE0/AN5/SEG21 (io), 34 RE1/AN6/SEG22 (io), 35 RE2/AN7/SEG23 (io), 36 RE3/~{MCLR}/VPP (io), 37 RE4/SEG24 (io), 38 VDD (power), 39 RA7/OSC1/CLKIN/T1OSI (io), 40 RA6/OSC2/CLKOUT/T1OSO (io), 41 VSS (power), 42 RE5/SEG25 (io), 43 RE6/SEG26 (io), 44 RE7/SEG27 (io), 45 RF4/SEG28 (io), 46 RF5/SEG29 (io), 47 RF6/SEG30 (io), 48 RF7/SEG31 (io), 49 RC0/VLCD1 (io), 50 RC1/VLCD2 (io), 51 RC2/VLCD3 (io), 52 RC3/SEG6 (io), 53 RD0/COM3 (io), 54 RD1 (io), 55 RD2/CCP2 (io), 56 VSS (power), 57 VDD (power), 58 RD3/SEG16 (io), 59 RC4/~{T1G}/SDO/SEG11 (io), 60 RC5/T1CKI/CCP1/SEG10 (io), 61 RC6/TX/CK/SCK/SCL/SEG9 (io), 62 RC7/RX/DT/SDI/SDA/SEG8 (io), 63 RD4/SEG17 (io), 64 RD5/SEG18 (io)

## PIC16F1934-E/ML
designator U?
CMOS Microcontroller with LCD Driver, 4K (words) Program Memory, 256 Bytes Data Memory, 256 Bytes SRAM, 25 I/O's, 28-Pin QFN, Extended Temperature; Published: 40149; DatasheetVersion: revC, Sep-2009; PackageVersion: revBB, Aug-2009; PackageReference: QFN-ML28; Publisher: Altium Limited; PackageDescription: 28-Lead Plastic Quad Flat, No Lead Package (ML) - 6x6 mm Body [QFN] with 0.55 mm Contact Length; Supplier 1: Digi-Key; Supplier Part Number 1: PIC16F1934-E/ML-ND; Code_JEDEC: MO-220; Code_IPC: QFN65P600X600-28V; ComponentLink1Description: Datasheet; ComponentLink1URL: http://ww1.microchip.com/downloads/en/DeviceDoc/41364C.pdf; ComponentLink2Description: Packaging Specification; ComponentLink2URL: http://www.microchip.com/stellent/groups/techpub_sg/documents/packagingspec/en012702.pdf; ComponentLink3Description: Microchip.com Home; ComponentLink3URL: http://www.microchip.com/
footprint QFN-ML28_N (QFN, 28-Leads, Body 6x6 mm, Pitch 0.65mm, IPC Medium Density)
footprint QFN-ML28_L (QFN, 28-Leads, Body 6x6 mm, Pitch 0.65mm, IPC High Density)
footprint QFN-ML28_M (QFN, 28-Leads, Body 6x6 mm, Pitch 0.65mm, IPC Low Density)
pins: 1 RA2/AN2/C2IN+/VREF-/DACOUT/COM2/ (io), 2 RA3/AN3/C1IN+/VREF+/COM3/SEG15/ (io), 3 RA4/C1OUT/CPS6/T0CKI/SRQ/CCP5/SEG4 (io), 4 RA5/AN4/C2OUT/CPS7/SRNQ/~{SS}/VCAP/SEG5 (io), 5 VSS (power), 6 RA7/OSC1/CLKIN/SEG2 (io), 7 RA6/OSC2/CLKOUT/VCAP/SEG1 (io), 8 RC0/T1OSO/T1CKI/P2B (io), 9 RC1/T1OSI/CCP2/P2A (io), 10 RC2/CCP1/P1A/SEG3 (io), 11 RC3/SCK/SCL/SEG6 (io), 12 RC4/SDI/SDA/T1G/SEG11 (io), 13 RC5/SDO/SEG10 (io), 14 RC6/TX/CK/CCP3/P3A/SEG9 (io), 15 RC7/RX/DT/P3B/SEG8 (io), 16 VSS (power), 17 VDD (power), 18 RB0/AN12/CPS0/CCP4/SRI/INT/SEG0 (io), 19 RB1/AN10/C12IN3-/CPS1/P1C/VLCD1 (io), 20 RB2/AN8/CPS2/P1B/VLCD2 (io), 21 RB3/AN9/C12IN2-/CPS3/CCP2/P2A/VLCD3 (io), 22 RB4/AN11/CPS4/P1D/COM0 (io), 23 RB5/AN13/CPS5/P2B/CCP3/P3AT1G/COM1 (io), 24 RB6/ICSPCLK/ICDCLK/SEG14 (io), 25 RB7/ICSPDAT/ICDDAT/SEG13 (io), 26 RE3/~{MCLR}/VPP (in), 27 RA0/AN0/C12IN0-/C2OUT/SRNQ/~{SS}/VCAP/SEG12 (io), 28 RA1/AN1/C12IN1-/SEG7/ (io), 29 Thermal Pad

## PIC16F1934-E/P
designator U?
CMOS Microcontroller with LCD Driver, 4K (words) Program Memory, 256 Bytes Data Memory, 256 Bytes SRAM, 25 I/O's, 28-Pin PDIP, Extended Temperature; Published: 40149; LatestRevisionDate: 11-Aug-2010; LatestRevisionNote: Sch. layout revised.; DatasheetVersion: revC, Sep-2009; PackageVersion: revBB, Aug-2009; PackageReference: PDIP600-P28; Publisher: Altium Limited; PackageDescription: 28-Lead Plastic Dual In-Line (P) - 600 mil Body [PDIP]; Supplier 1: Digi-Key; Supplier Part Number 1: PIC16F1934-E/P-ND; Code_JEDEC: MO-011; ComponentLink1Description: Datasheet; ComponentLink1URL: http://ww1.microchip.com/downloads/en/DeviceDoc/41364C.pdf; ComponentLink2Description: Packaging Specification; ComponentLink2URL: http://www.microchip.com/stellent/groups/techpub_sg/documents/packagingspec/en012702.pdf; ComponentLink3Description: Microchip.com Home; ComponentLink3URL: http://www.microchip.com/
footprint PDIP600-P28 (DIP, 28-Leads, Row Spacing 15.24mm, Pitch 2.54mm, Body 37.4x13.5mm)
pins: 1 RE3/~{MCLR}/VPP (in), 2 RA0/AN0/C12IN0-/C2OUT/SRNQ/~{SS}/VCAP/SEG12 (io), 3 RA1/AN1/C12IN1-/SEG7/ (io), 4 RA2/AN2/C2IN+/VREF-/DACOUT/COM2/ (io), 5 RA3/AN3/C1IN+/VREF+/COM3/SEG15/ (io), 6 RA4/C1OUT/CPS6/T0CKI/SRQ/CCP5/SEG4 (io), 7 RA5/AN4/C2OUT/CPS7/SRNQ/~{SS}/VCAP/SEG5 (io), 8 VSS (power), 9 RA7/OSC1/CLKIN/SEG2 (io), 10 RA6/OSC2/CLKOUT/VCAP/SEG1 (io), 11 RC0/T1OSO/T1CKI/P2B (io), 12 RC1/T1OSI/CCP2/P2A (io), 13 RC2/CCP1/P1A/SEG3 (io), 14 RC3/SCK/SCL/SEG6 (io), 15 RC4/SDI/SDA/T1G/SEG11 (io), 16 RC5/SDO/SEG10 (io), 17 RC6/TX/CK/CCP3/P3A/SEG9 (io), 18 RC7/RX/DT/P3B/SEG8 (io), 19 VSS (power), 20 VDD (power), 21 RB0/AN12/CPS0/CCP4/SRI/INT/SEG0 (io), 22 RB1/AN10/C12IN3-/CPS1/P1C/VLCD1 (io), 23 RB2/AN8/CPS2/P1B/VLCD2 (io), 24 RB3/AN9/C12IN2-/CPS3/CCP2/P2A/VLCD3 (io), 25 RB4/AN11/CPS4/P1D/COM0 (io), 26 RB5/AN13/CPS5/P2B/CCP3/P3AT1G/COM1 (io), 27 RB6/ICSPCLK/ICDCLK/SEG14 (io), 28 RB7/ICSPDAT/ICDDAT/SEG13 (io)

## PIC16F1934-I/ML
designator U?
CMOS Microcontroller with LCD Driver, 4K (words) Program Memory, 256 Bytes Data Memory, 256 Bytes SRAM, 25 I/O's, 28-Pin QFN, Industrial Temperature; Published: 40149; DatasheetVersion: revC, Sep-2009; PackageVersion: revBB, Aug-2009; PackageReference: QFN-ML28; Publisher: Altium Limited; PackageDescription: 28-Lead Plastic Quad Flat, No Lead Package (ML) - 6x6 mm Body [QFN] with 0.55 mm Contact Length; Supplier 1: Digi-Key; Supplier Part Number 1: PIC16F1934-I/ML-ND; Supplier 2: Farnell; Supplier Part Number 2: 1755816; Code_JEDEC: MO-220; Code_IPC: QFN65P600X600-28V; ComponentLink1Description: Datasheet; ComponentLink1URL: http://ww1.microchip.com/downloads/en/DeviceDoc/41364C.pdf; ComponentLink2Description: Packaging Specification; ComponentLink2URL: http://www.microchip.com/stellent/groups/techpub_sg/documents/packagingspec/en012702.pdf; ComponentLink3Description: Microchip.com Home; ComponentLink3URL: http://www.microchip.com/
footprint QFN-ML28_N (QFN, 28-Leads, Body 6x6 mm, Pitch 0.65mm, IPC Medium Density)
footprint QFN-ML28_L (QFN, 28-Leads, Body 6x6 mm, Pitch 0.65mm, IPC High Density)
footprint QFN-ML28_M (QFN, 28-Leads, Body 6x6 mm, Pitch 0.65mm, IPC Low Density)
pins: 1 RA2/AN2/C2IN+/VREF-/DACOUT/COM2/ (io), 2 RA3/AN3/C1IN+/VREF+/COM3/SEG15/ (io), 3 RA4/C1OUT/CPS6/T0CKI/SRQ/CCP5/SEG4 (io), 4 RA5/AN4/C2OUT/CPS7/SRNQ/~{SS}/VCAP/SEG5 (io), 5 VSS (power), 6 RA7/OSC1/CLKIN/SEG2 (io), 7 RA6/OSC2/CLKOUT/VCAP/SEG1 (io), 8 RC0/T1OSO/T1CKI/P2B (io), 9 RC1/T1OSI/CCP2/P2A (io), 10 RC2/CCP1/P1A/SEG3 (io), 11 RC3/SCK/SCL/SEG6 (io), 12 RC4/SDI/SDA/T1G/SEG11 (io), 13 RC5/SDO/SEG10 (io), 14 RC6/TX/CK/CCP3/P3A/SEG9 (io), 15 RC7/RX/DT/P3B/SEG8 (io), 16 VSS (power), 17 VDD (power), 18 RB0/AN12/CPS0/CCP4/SRI/INT/SEG0 (io), 19 RB1/AN10/C12IN3-/CPS1/P1C/VLCD1 (io), 20 RB2/AN8/CPS2/P1B/VLCD2 (io), 21 RB3/AN9/C12IN2-/CPS3/CCP2/P2A/VLCD3 (io), 22 RB4/AN11/CPS4/P1D/COM0 (io), 23 RB5/AN13/CPS5/P2B/CCP3/P3AT1G/COM1 (io), 24 RB6/ICSPCLK/ICDCLK/SEG14 (io), 25 RB7/ICSPDAT/ICDDAT/SEG13 (io), 26 RE3/~{MCLR}/VPP (in), 27 RA0/AN0/C12IN0-/C2OUT/SRNQ/~{SS}/VCAP/SEG12 (io), 28 RA1/AN1/C12IN1-/SEG7/ (io), 29 Thermal Pad

## PIC16F1934-I/P
designator U?
CMOS Microcontroller with LCD Driver, 4K (words) Program Memory, 256 Bytes Data Memory, 256 Bytes SRAM, 25 I/O's, 28-Pin PDIP, Industrial Temperature; Published: 40149; LatestRevisionDate: 11-Aug-2010; LatestRevisionNote: Sch. layout revised.; DatasheetVersion: revC, Sep-2009; PackageVersion: revBB, Aug-2009; PackageReference: PDIP600-P28; Publisher: Altium Limited; PackageDescription: 28-Lead Plastic Dual In-Line (P) - 600 mil Body [PDIP]; Supplier 1: Digi-Key; Supplier Part Number 1: PIC16F1934-I/P-ND; Supplier 2: Farnell; Supplier Part Number 2: 1755817; Code_JEDEC: MO-011; ComponentLink1Description: Datasheet; ComponentLink1URL: http://ww1.microchip.com/downloads/en/DeviceDoc/41364C.pdf; ComponentLink2Description: Packaging Specification; ComponentLink2URL: http://www.microchip.com/stellent/groups/techpub_sg/documents/packagingspec/en012702.pdf; ComponentLink3Description: Microchip.com Home; ComponentLink3URL: http://www.microchip.com/
footprint PDIP600-P28 (DIP, 28-Leads, Row Spacing 15.24mm, Pitch 2.54mm, Body 37.4x13.5mm)
pins: 1 RE3/~{MCLR}/VPP (in), 2 RA0/AN0/C12IN0-/C2OUT/SRNQ/~{SS}/VCAP/SEG12 (io), 3 RA1/AN1/C12IN1-/SEG7/ (io), 4 RA2/AN2/C2IN+/VREF-/DACOUT/COM2/ (io), 5 RA3/AN3/C1IN+/VREF+/COM3/SEG15/ (io), 6 RA4/C1OUT/CPS6/T0CKI/SRQ/CCP5/SEG4 (io), 7 RA5/AN4/C2OUT/CPS7/SRNQ/~{SS}/VCAP/SEG5 (io), 8 VSS (power), 9 RA7/OSC1/CLKIN/SEG2 (io), 10 RA6/OSC2/CLKOUT/VCAP/SEG1 (io), 11 RC0/T1OSO/T1CKI/P2B (io), 12 RC1/T1OSI/CCP2/P2A (io), 13 RC2/CCP1/P1A/SEG3 (io), 14 RC3/SCK/SCL/SEG6 (io), 15 RC4/SDI/SDA/T1G/SEG11 (io), 16 RC5/SDO/SEG10 (io), 17 RC6/TX/CK/CCP3/P3A/SEG9 (io), 18 RC7/RX/DT/P3B/SEG8 (io), 19 VSS (power), 20 VDD (power), 21 RB0/AN12/CPS0/CCP4/SRI/INT/SEG0 (io), 22 RB1/AN10/C12IN3-/CPS1/P1C/VLCD1 (io), 23 RB2/AN8/CPS2/P1B/VLCD2 (io), 24 RB3/AN9/C12IN2-/CPS3/CCP2/P2A/VLCD3 (io), 25 RB4/AN11/CPS4/P1D/COM0 (io), 26 RB5/AN13/CPS5/P2B/CCP3/P3AT1G/COM1 (io), 27 RB6/ICSPCLK/ICDCLK/SEG14 (io), 28 RB7/ICSPDAT/ICDDAT/SEG13 (io)

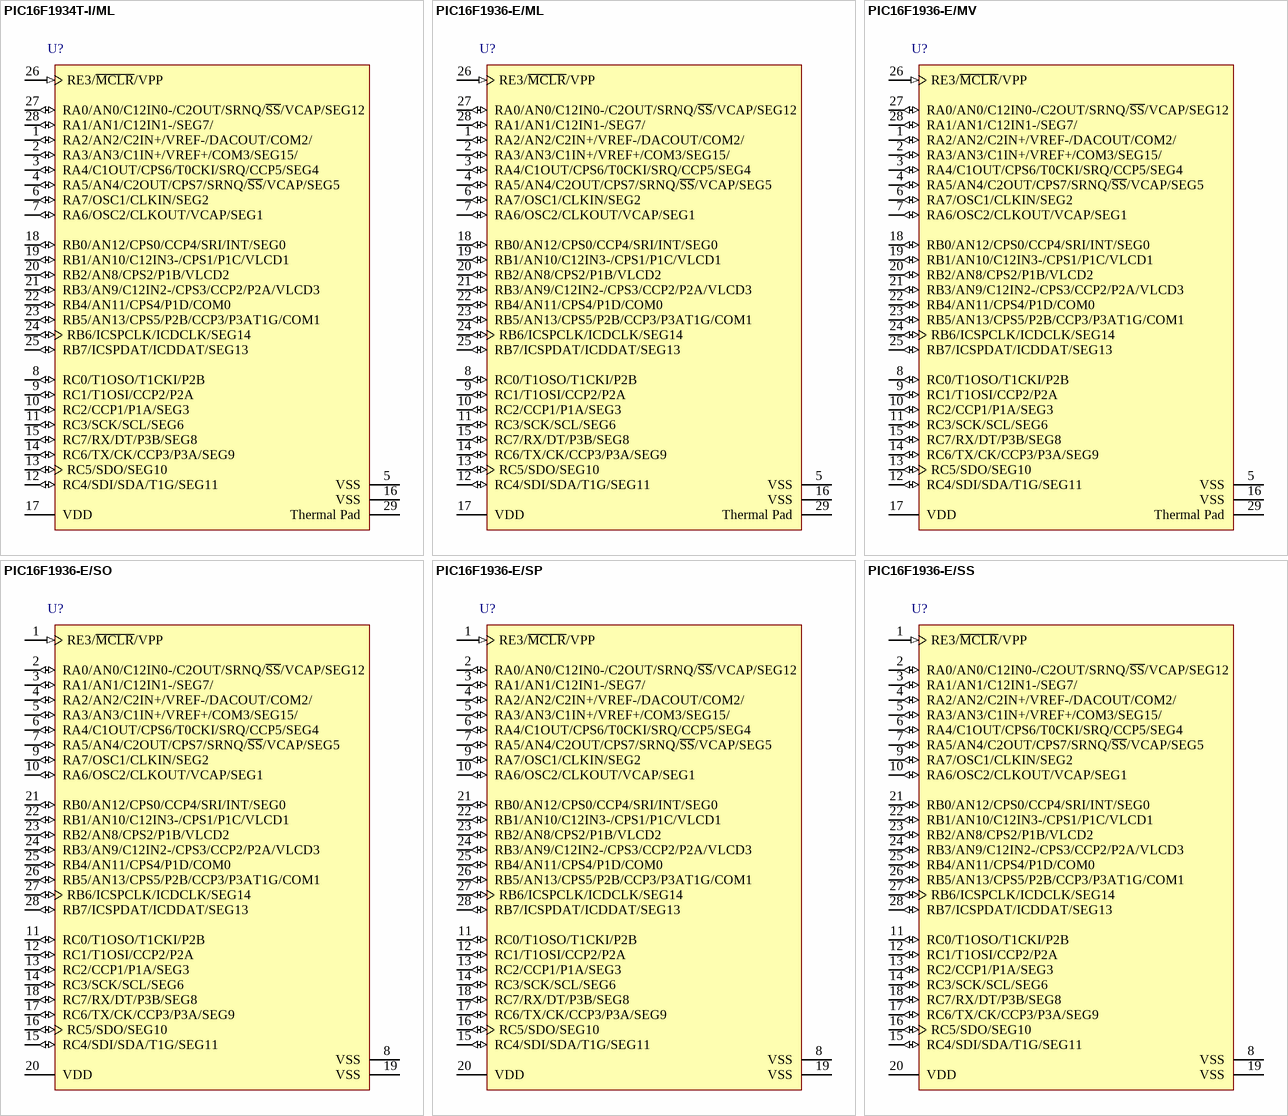
[diagram p77: symbols PIC16F1934T-I/ML to PIC16F1936-E/SS]

## PIC16F1934T-I/ML
designator U?
CMOS Microcontroller with LCD Driver, 4K (words) Program Memory, 256 Bytes Data Memory, 256 Bytes SRAM, 25 I/O's, 28-Pin QFN, Industrial Temperature, Tape and Reel; Published: 40149; DatasheetVersion: revC, Sep-2009; PackageVersion: revBB, Aug-2009; PackageReference: QFN-ML28; Publisher: Altium Limited; PackageDescription: 28-Lead Plastic Quad Flat, No Lead Package (ML) - 6x6 mm Body [QFN] with 0.55 mm Contact Length; Supplier 1: Digi-Key; Supplier Part Number 1: PIC16F1934T-I/ML-ND; Code_JEDEC: MO-220; Code_IPC: QFN65P600X600-28V; ComponentLink1Description: Datasheet; ComponentLink1URL: http://ww1.microchip.com/downloads/en/DeviceDoc/41364C.pdf; ComponentLink2Description: Packaging Specification; ComponentLink2URL: http://www.microchip.com/stellent/groups/techpub_sg/documents/packagingspec/en012702.pdf; ComponentLink3Description: Microchip.com Home; ComponentLink3URL: http://www.microchip.com/
footprint QFN-ML28_N (QFN, 28-Leads, Body 6x6 mm, Pitch 0.65mm, IPC Medium Density)
footprint QFN-ML28_L (QFN, 28-Leads, Body 6x6 mm, Pitch 0.65mm, IPC High Density)
footprint QFN-ML28_M (QFN, 28-Leads, Body 6x6 mm, Pitch 0.65mm, IPC Low Density)
pins: 1 RA2/AN2/C2IN+/VREF-/DACOUT/COM2/ (io), 2 RA3/AN3/C1IN+/VREF+/COM3/SEG15/ (io), 3 RA4/C1OUT/CPS6/T0CKI/SRQ/CCP5/SEG4 (io), 4 RA5/AN4/C2OUT/CPS7/SRNQ/~{SS}/VCAP/SEG5 (io), 5 VSS (power), 6 RA7/OSC1/CLKIN/SEG2 (io), 7 RA6/OSC2/CLKOUT/VCAP/SEG1 (io), 8 RC0/T1OSO/T1CKI/P2B (io), 9 RC1/T1OSI/CCP2/P2A (io), 10 RC2/CCP1/P1A/SEG3 (io), 11 RC3/SCK/SCL/SEG6 (io), 12 RC4/SDI/SDA/T1G/SEG11 (io), 13 RC5/SDO/SEG10 (io), 14 RC6/TX/CK/CCP3/P3A/SEG9 (io), 15 RC7/RX/DT/P3B/SEG8 (io), 16 VSS (power), 17 VDD (power), 18 RB0/AN12/CPS0/CCP4/SRI/INT/SEG0 (io), 19 RB1/AN10/C12IN3-/CPS1/P1C/VLCD1 (io), 20 RB2/AN8/CPS2/P1B/VLCD2 (io), 21 RB3/AN9/C12IN2-/CPS3/CCP2/P2A/VLCD3 (io), 22 RB4/AN11/CPS4/P1D/COM0 (io), 23 RB5/AN13/CPS5/P2B/CCP3/P3AT1G/COM1 (io), 24 RB6/ICSPCLK/ICDCLK/SEG14 (io), 25 RB7/ICSPDAT/ICDDAT/SEG13 (io), 26 RE3/~{MCLR}/VPP (in), 27 RA0/AN0/C12IN0-/C2OUT/SRNQ/~{SS}/VCAP/SEG12 (io), 28 RA1/AN1/C12IN1-/SEG7/ (io), 29 Thermal Pad

## PIC16F1936-E/ML
designator U?
CMOS Microcontroller with LCD Driver, 8K (words) Program Memory, 256 Bytes Data Memory, 512 Bytes SRAM, 25 I/O's, 28-Pin QFN, Extended Temperature; Published: 40149; DatasheetVersion: revC, Sep-2009; PackageVersion: revBB, Aug-2009; PackageReference: QFN-ML28; Publisher: Altium Limited; PackageDescription: 28-Lead Plastic Quad Flat, No Lead Package (ML) - 6x6 mm Body [QFN] with 0.55 mm Contact Length; Supplier 1: Digi-Key; Supplier Part Number 1: PIC16F1936-E/ML-ND; Code_JEDEC: MO-220; Code_IPC: QFN65P600X600-28V; ComponentLink1Description: Datasheet; ComponentLink1URL: http://ww1.microchip.com/downloads/en/DeviceDoc/41364C.pdf; ComponentLink2Description: Packaging Specification; ComponentLink2URL: http://www.microchip.com/stellent/groups/techpub_sg/documents/packagingspec/en012702.pdf; ComponentLink3Description: Microchip.com Home; ComponentLink3URL: http://www.microchip.com/
footprint QFN-ML28_N (QFN, 28-Leads, Body 6x6 mm, Pitch 0.65mm, IPC Medium Density)
footprint QFN-ML28_L (QFN, 28-Leads, Body 6x6 mm, Pitch 0.65mm, IPC High Density)
footprint QFN-ML28_M (QFN, 28-Leads, Body 6x6 mm, Pitch 0.65mm, IPC Low Density)
pins: 1 RA2/AN2/C2IN+/VREF-/DACOUT/COM2/ (io), 2 RA3/AN3/C1IN+/VREF+/COM3/SEG15/ (io), 3 RA4/C1OUT/CPS6/T0CKI/SRQ/CCP5/SEG4 (io), 4 RA5/AN4/C2OUT/CPS7/SRNQ/~{SS}/VCAP/SEG5 (io), 5 VSS (power), 6 RA7/OSC1/CLKIN/SEG2 (io), 7 RA6/OSC2/CLKOUT/VCAP/SEG1 (io), 8 RC0/T1OSO/T1CKI/P2B (io), 9 RC1/T1OSI/CCP2/P2A (io), 10 RC2/CCP1/P1A/SEG3 (io), 11 RC3/SCK/SCL/SEG6 (io), 12 RC4/SDI/SDA/T1G/SEG11 (io), 13 RC5/SDO/SEG10 (io), 14 RC6/TX/CK/CCP3/P3A/SEG9 (io), 15 RC7/RX/DT/P3B/SEG8 (io), 16 VSS (power), 17 VDD (power), 18 RB0/AN12/CPS0/CCP4/SRI/INT/SEG0 (io), 19 RB1/AN10/C12IN3-/CPS1/P1C/VLCD1 (io), 20 RB2/AN8/CPS2/P1B/VLCD2 (io), 21 RB3/AN9/C12IN2-/CPS3/CCP2/P2A/VLCD3 (io), 22 RB4/AN11/CPS4/P1D/COM0 (io), 23 RB5/AN13/CPS5/P2B/CCP3/P3AT1G/COM1 (io), 24 RB6/ICSPCLK/ICDCLK/SEG14 (io), 25 RB7/ICSPDAT/ICDDAT/SEG13 (io), 26 RE3/~{MCLR}/VPP (in), 27 RA0/AN0/C12IN0-/C2OUT/SRNQ/~{SS}/VCAP/SEG12 (io), 28 RA1/AN1/C12IN1-/SEG7/ (io), 29 Thermal Pad

## PIC16F1936-E/MV
designator U?
CMOS Microcontroller with LCD Driver, 8K (words) Program Memory, 256 Bytes Data Memory, 512 Bytes SRAM, 25 I/O's, 28-Pin UQFN, Extended Temperature; Published: 40149; DatasheetVersion: revC, Sep-2009; PackageVersion: revBB, Aug-2009; PackageReference: UQFN-MV28; Publisher: Altium Limited; PackageDescription: 28-Lead Plastic Ultra Thin Quad Flat, No Lead Package (MV) - 4x4x0.5 mm Body [UQFN]; Supplier 1: Digi-Key; Supplier Part Number 1: PIC16F1936-E/MV-ND; ComponentLink1Description: Datasheet; ComponentLink1URL: http://ww1.microchip.com/downloads/en/DeviceDoc/41364C.pdf; ComponentLink2Description: Packaging Specification; ComponentLink2URL: http://www.microchip.com/stellent/groups/techpub_sg/documents/packagingspec/en012702.pdf; ComponentLink3Description: Microchip.com Home; ComponentLink3URL: http://www.microchip.com/
footprint UQFN-MV28_N (QFN, 28-Leads, Body 4x4 mm, Pitch 0.4mm, IPC Medium Density)
footprint UQFN-MV28_L (QFN, 28-Leads, Body 4x4 mm, Pitch 0.4mm, IPC High Density)
footprint UQFN-MV28_M (QFN, 28-Leads, Body 4x4 mm, Pitch 0.4mm, IPC Low Density)
pins: 1 RA2/AN2/C2IN+/VREF-/DACOUT/COM2/ (io), 2 RA3/AN3/C1IN+/VREF+/COM3/SEG15/ (io), 3 RA4/C1OUT/CPS6/T0CKI/SRQ/CCP5/SEG4 (io), 4 RA5/AN4/C2OUT/CPS7/SRNQ/~{SS}/VCAP/SEG5 (io), 5 VSS (power), 6 RA7/OSC1/CLKIN/SEG2 (io), 7 RA6/OSC2/CLKOUT/VCAP/SEG1 (io), 8 RC0/T1OSO/T1CKI/P2B (io), 9 RC1/T1OSI/CCP2/P2A (io), 10 RC2/CCP1/P1A/SEG3 (io), 11 RC3/SCK/SCL/SEG6 (io), 12 RC4/SDI/SDA/T1G/SEG11 (io), 13 RC5/SDO/SEG10 (io), 14 RC6/TX/CK/CCP3/P3A/SEG9 (io), 15 RC7/RX/DT/P3B/SEG8 (io), 16 VSS (power), 17 VDD (power), 18 RB0/AN12/CPS0/CCP4/SRI/INT/SEG0 (io), 19 RB1/AN10/C12IN3-/CPS1/P1C/VLCD1 (io), 20 RB2/AN8/CPS2/P1B/VLCD2 (io), 21 RB3/AN9/C12IN2-/CPS3/CCP2/P2A/VLCD3 (io), 22 RB4/AN11/CPS4/P1D/COM0 (io), 23 RB5/AN13/CPS5/P2B/CCP3/P3AT1G/COM1 (io), 24 RB6/ICSPCLK/ICDCLK/SEG14 (io), 25 RB7/ICSPDAT/ICDDAT/SEG13 (io), 26 RE3/~{MCLR}/VPP (in), 27 RA0/AN0/C12IN0-/C2OUT/SRNQ/~{SS}/VCAP/SEG12 (io), 28 RA1/AN1/C12IN1-/SEG7/ (io), 29 Thermal Pad

## PIC16F1936-E/SO
designator U?
CMOS Microcontroller with LCD Driver, 8K (words) Program Memory, 256 Bytes Data Memory, 512 Bytes SRAM, 25 I/O's, 28-Pin SOIC, Extended Temperature; Published: 40149; LatestRevisionDate: 11-Aug-2010; LatestRevisionNote: Sch. layout revised.; DatasheetVersion: revC, Sep-2009; PackageVersion: revBB, Aug-2009; PackageReference: SOIC-SO28; Publisher: Altium Limited; PackageDescription: 28-Lead Plastic Small Outline (SO) - Wide 7.50mm Body [SOIC]; Supplier 1: Digi-Key; Supplier Part Number 1: PIC16F1936-E/SO-ND; Code_JEDEC: MS-013; ComponentLink1Description: Datasheet; ComponentLink1URL: http://ww1.microchip.com/downloads/en/DeviceDoc/41364C.pdf; ComponentLink2Description: Packaging Specification; ComponentLink2URL: http://www.microchip.com/stellent/groups/techpub_sg/documents/packagingspec/en012702.pdf; ComponentLink3Description: Microchip.com Home; ComponentLink3URL: http://www.microchip.com/
footprint SOIC-SO28_N (SOIC, 28-Leads, Body 17.9x7.5mm, Pitch 1.27mm, IPC Medium Density)
footprint SOIC-SO28_L (SOIC, 28-Leads, Body 17.9x7.5mm, Pitch 1.27mm, IPC High Density)
footprint SOIC-SO28_M (SOIC, 28-Leads, Body 17.9x7.5mm, Pitch 1.27mm, IPC Low Density)
pins: 1 RE3/~{MCLR}/VPP (in), 2 RA0/AN0/C12IN0-/C2OUT/SRNQ/~{SS}/VCAP/SEG12 (io), 3 RA1/AN1/C12IN1-/SEG7/ (io), 4 RA2/AN2/C2IN+/VREF-/DACOUT/COM2/ (io), 5 RA3/AN3/C1IN+/VREF+/COM3/SEG15/ (io), 6 RA4/C1OUT/CPS6/T0CKI/SRQ/CCP5/SEG4 (io), 7 RA5/AN4/C2OUT/CPS7/SRNQ/~{SS}/VCAP/SEG5 (io), 8 VSS (power), 9 RA7/OSC1/CLKIN/SEG2 (io), 10 RA6/OSC2/CLKOUT/VCAP/SEG1 (io), 11 RC0/T1OSO/T1CKI/P2B (io), 12 RC1/T1OSI/CCP2/P2A (io), 13 RC2/CCP1/P1A/SEG3 (io), 14 RC3/SCK/SCL/SEG6 (io), 15 RC4/SDI/SDA/T1G/SEG11 (io), 16 RC5/SDO/SEG10 (io), 17 RC6/TX/CK/CCP3/P3A/SEG9 (io), 18 RC7/RX/DT/P3B/SEG8 (io), 19 VSS (power), 20 VDD (power), 21 RB0/AN12/CPS0/CCP4/SRI/INT/SEG0 (io), 22 RB1/AN10/C12IN3-/CPS1/P1C/VLCD1 (io), 23 RB2/AN8/CPS2/P1B/VLCD2 (io), 24 RB3/AN9/C12IN2-/CPS3/CCP2/P2A/VLCD3 (io), 25 RB4/AN11/CPS4/P1D/COM0 (io), 26 RB5/AN13/CPS5/P2B/CCP3/P3AT1G/COM1 (io), 27 RB6/ICSPCLK/ICDCLK/SEG14 (io), 28 RB7/ICSPDAT/ICDDAT/SEG13 (io)

## PIC16F1936-E/SP
designator U?
CMOS Microcontroller with LCD Driver, 8K (words) Program Memory, 256 Bytes Data Memory, 512 Bytes SRAM, 25 I/O's, 28-Pin SPDIP, Extended Temperature; Published: 40149; LatestRevisionDate: 11-Aug-2010; LatestRevisionNote: Sch. layout revised.; DatasheetVersion: revC, Sep-2009; PackageVersion: revBB, Aug-2009; PackageReference: SPDIP300-SP28; Publisher: Altium Limited; PackageDescription: 28-Lead Skinny Plastic Dual In-Line (SP) - 300 mil Body [SPDIP]; Supplier 1: Digi-Key; Supplier Part Number 1: PIC16F1936-E/SP-ND; ComponentLink1Description: Datasheet; ComponentLink1URL: http://ww1.microchip.com/downloads/en/DeviceDoc/41364C.pdf; ComponentLink2Description: Packaging Specification; ComponentLink2URL: http://www.microchip.com/stellent/groups/techpub_sg/documents/packagingspec/en012702.pdf; ComponentLink3Description: Microchip.com Home; ComponentLink3URL: http://www.microchip.com/
footprint SPDIP300-SP28 (DIP, 28-Leads, Row Spacing 7.62mm, Pitch 2.54mm, Body 34.9x6.8mm)
pins: 1 RE3/~{MCLR}/VPP (in), 2 RA0/AN0/C12IN0-/C2OUT/SRNQ/~{SS}/VCAP/SEG12 (io), 3 RA1/AN1/C12IN1-/SEG7/ (io), 4 RA2/AN2/C2IN+/VREF-/DACOUT/COM2/ (io), 5 RA3/AN3/C1IN+/VREF+/COM3/SEG15/ (io), 6 RA4/C1OUT/CPS6/T0CKI/SRQ/CCP5/SEG4 (io), 7 RA5/AN4/C2OUT/CPS7/SRNQ/~{SS}/VCAP/SEG5 (io), 8 VSS (power), 9 RA7/OSC1/CLKIN/SEG2 (io), 10 RA6/OSC2/CLKOUT/VCAP/SEG1 (io), 11 RC0/T1OSO/T1CKI/P2B (io), 12 RC1/T1OSI/CCP2/P2A (io), 13 RC2/CCP1/P1A/SEG3 (io), 14 RC3/SCK/SCL/SEG6 (io), 15 RC4/SDI/SDA/T1G/SEG11 (io), 16 RC5/SDO/SEG10 (io), 17 RC6/TX/CK/CCP3/P3A/SEG9 (io), 18 RC7/RX/DT/P3B/SEG8 (io), 19 VSS (power), 20 VDD (power), 21 RB0/AN12/CPS0/CCP4/SRI/INT/SEG0 (io), 22 RB1/AN10/C12IN3-/CPS1/P1C/VLCD1 (io), 23 RB2/AN8/CPS2/P1B/VLCD2 (io), 24 RB3/AN9/C12IN2-/CPS3/CCP2/P2A/VLCD3 (io), 25 RB4/AN11/CPS4/P1D/COM0 (io), 26 RB5/AN13/CPS5/P2B/CCP3/P3AT1G/COM1 (io), 27 RB6/ICSPCLK/ICDCLK/SEG14 (io), 28 RB7/ICSPDAT/ICDDAT/SEG13 (io)

## PIC16F1936-E/SS
designator U?
CMOS Microcontroller with LCD Driver, 8K (words) Program Memory, 256 Bytes Data Memory, 512 Bytes SRAM, 25 I/O's, 28-Pin SSOP, Extended Temperature; Published: 40149; LatestRevisionDate: 11-Aug-2010; LatestRevisionNote: Sch. layout revised.; DatasheetVersion: revC, Sep-2009; PackageVersion: revBB, Aug-2009; PackageReference: SSOP-SS28; Publisher: Altium Limited; PackageDescription: 28-Lead Plastic Shrink Small Outline (SS) - 5.3mm Body [SSOP]; Supplier 1: Digi-Key; Supplier Part Number 1: PIC16F1936-E/SS-ND; Code_JEDEC: MS-150; Code_IPC: SOP65P780-28; ComponentLink1Description: Datasheet; ComponentLink1URL: http://ww1.microchip.com/downloads/en/DeviceDoc/41364C.pdf; ComponentLink2Description: Packaging Specification; ComponentLink2URL: http://www.microchip.com/stellent/groups/techpub_sg/documents/packagingspec/en012702.pdf; ComponentLink3Description: Microchip.com Home; ComponentLink3URL: http://www.microchip.com/
footprint SSOP-SS28_N (SOP, 28-Leads, Body 10.2x5.2mm, Pitch 0.65mm, IPC Medium Density)
footprint SSOP-SS28_L (SOP, 28-Leads, Body 10.2x5.2mm, Pitch 0.65mm, IPC High Density)
footprint SSOP-SS28_M (SOP, 28-Leads, Body 10.2x5.2mm, Pitch 0.65mm, IPC Low Density)
pins: 1 RE3/~{MCLR}/VPP (in), 2 RA0/AN0/C12IN0-/C2OUT/SRNQ/~{SS}/VCAP/SEG12 (io), 3 RA1/AN1/C12IN1-/SEG7/ (io), 4 RA2/AN2/C2IN+/VREF-/DACOUT/COM2/ (io), 5 RA3/AN3/C1IN+/VREF+/COM3/SEG15/ (io), 6 RA4/C1OUT/CPS6/T0CKI/SRQ/CCP5/SEG4 (io), 7 RA5/AN4/C2OUT/CPS7/SRNQ/~{SS}/VCAP/SEG5 (io), 8 VSS (power), 9 RA7/OSC1/CLKIN/SEG2 (io), 10 RA6/OSC2/CLKOUT/VCAP/SEG1 (io), 11 RC0/T1OSO/T1CKI/P2B (io), 12 RC1/T1OSI/CCP2/P2A (io), 13 RC2/CCP1/P1A/SEG3 (io), 14 RC3/SCK/SCL/SEG6 (io), 15 RC4/SDI/SDA/T1G/SEG11 (io), 16 RC5/SDO/SEG10 (io), 17 RC6/TX/CK/CCP3/P3A/SEG9 (io), 18 RC7/RX/DT/P3B/SEG8 (io), 19 VSS (power), 20 VDD (power), 21 RB0/AN12/CPS0/CCP4/SRI/INT/SEG0 (io), 22 RB1/AN10/C12IN3-/CPS1/P1C/VLCD1 (io), 23 RB2/AN8/CPS2/P1B/VLCD2 (io), 24 RB3/AN9/C12IN2-/CPS3/CCP2/P2A/VLCD3 (io), 25 RB4/AN11/CPS4/P1D/COM0 (io), 26 RB5/AN13/CPS5/P2B/CCP3/P3AT1G/COM1 (io), 27 RB6/ICSPCLK/ICDCLK/SEG14 (io), 28 RB7/ICSPDAT/ICDDAT/SEG13 (io)

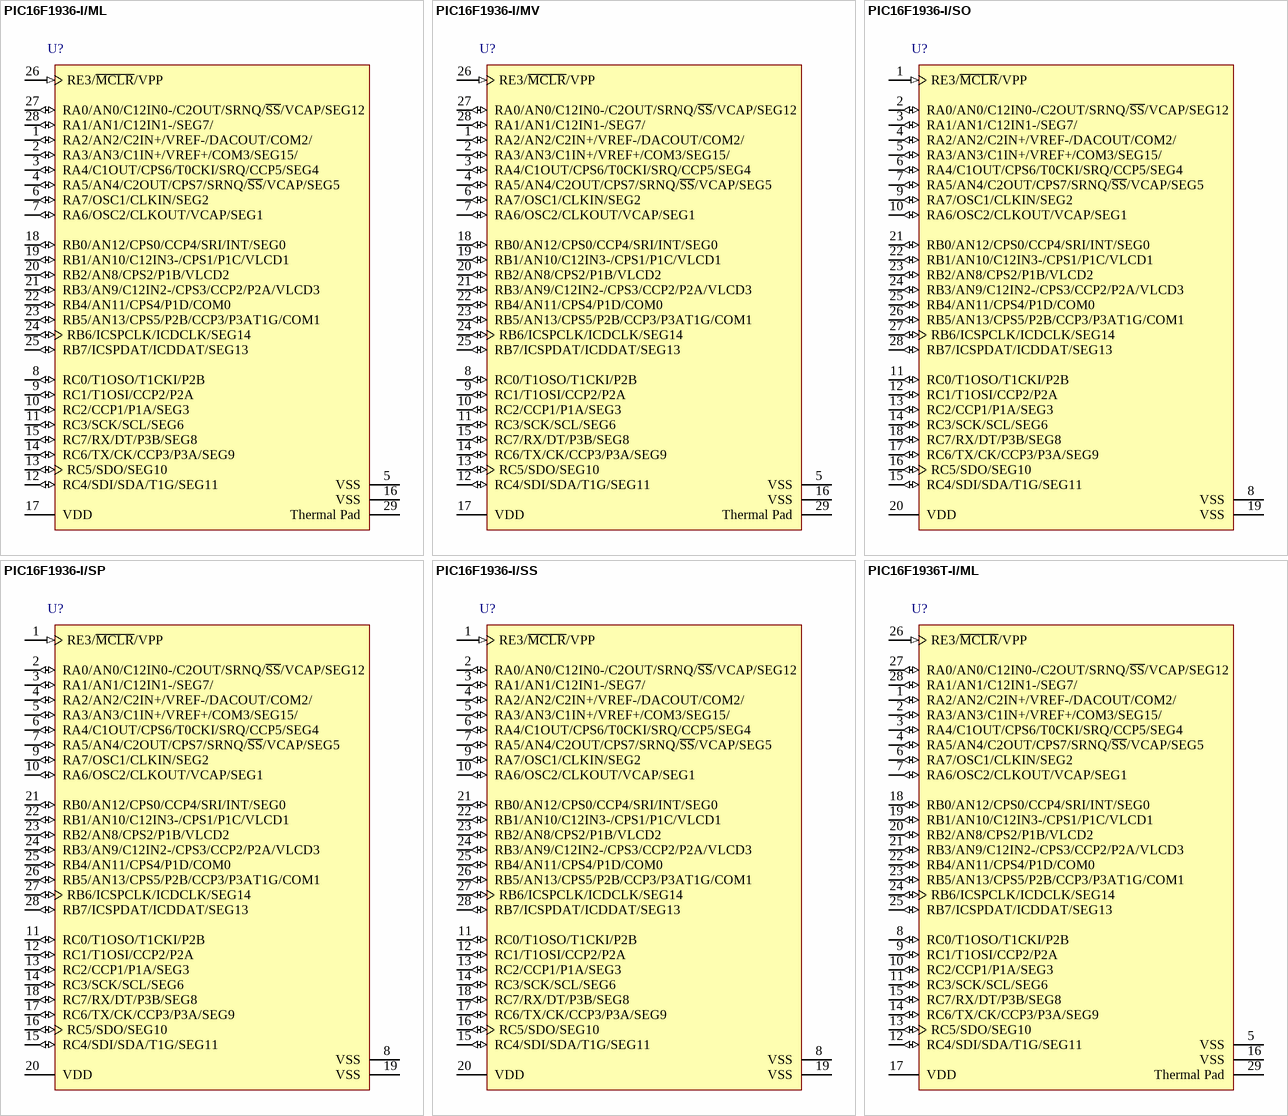
[diagram p78: symbols PIC16F1936-I/ML to PIC16F1936T-I/ML]

## PIC16F1936-I/ML
designator U?
CMOS Microcontroller with LCD Driver, 8K (words) Program Memory, 256 Bytes Data Memory, 512 Bytes SRAM, 25 I/O's, 28-Pin QFN, Industrial Temperature; Published: 40149; DatasheetVersion: revC, Sep-2009; PackageVersion: revBB, Aug-2009; PackageReference: QFN-ML28; Publisher: Altium Limited; PackageDescription: 28-Lead Plastic Quad Flat, No Lead Package (ML) - 6x6 mm Body [QFN] with 0.55 mm Contact Length; Supplier 1: Digi-Key; Supplier Part Number 1: PIC16F1936-I/ML-ND; Supplier 2: Farnell; Supplier Part Number 2: 1755819; Code_JEDEC: MO-220; Code_IPC: QFN65P600X600-28V; ComponentLink1Description: Datasheet; ComponentLink1URL: http://ww1.microchip.com/downloads/en/DeviceDoc/41364C.pdf; ComponentLink2Description: Packaging Specification; ComponentLink2URL: http://www.microchip.com/stellent/groups/techpub_sg/documents/packagingspec/en012702.pdf; ComponentLink3Description: Microchip.com Home; ComponentLink3URL: http://www.microchip.com/
footprint QFN-ML28_N (QFN, 28-Leads, Body 6x6 mm, Pitch 0.65mm, IPC Medium Density)
footprint QFN-ML28_L (QFN, 28-Leads, Body 6x6 mm, Pitch 0.65mm, IPC High Density)
footprint QFN-ML28_M (QFN, 28-Leads, Body 6x6 mm, Pitch 0.65mm, IPC Low Density)
pins: 1 RA2/AN2/C2IN+/VREF-/DACOUT/COM2/ (io), 2 RA3/AN3/C1IN+/VREF+/COM3/SEG15/ (io), 3 RA4/C1OUT/CPS6/T0CKI/SRQ/CCP5/SEG4 (io), 4 RA5/AN4/C2OUT/CPS7/SRNQ/~{SS}/VCAP/SEG5 (io), 5 VSS (power), 6 RA7/OSC1/CLKIN/SEG2 (io), 7 RA6/OSC2/CLKOUT/VCAP/SEG1 (io), 8 RC0/T1OSO/T1CKI/P2B (io), 9 RC1/T1OSI/CCP2/P2A (io), 10 RC2/CCP1/P1A/SEG3 (io), 11 RC3/SCK/SCL/SEG6 (io), 12 RC4/SDI/SDA/T1G/SEG11 (io), 13 RC5/SDO/SEG10 (io), 14 RC6/TX/CK/CCP3/P3A/SEG9 (io), 15 RC7/RX/DT/P3B/SEG8 (io), 16 VSS (power), 17 VDD (power), 18 RB0/AN12/CPS0/CCP4/SRI/INT/SEG0 (io), 19 RB1/AN10/C12IN3-/CPS1/P1C/VLCD1 (io), 20 RB2/AN8/CPS2/P1B/VLCD2 (io), 21 RB3/AN9/C12IN2-/CPS3/CCP2/P2A/VLCD3 (io), 22 RB4/AN11/CPS4/P1D/COM0 (io), 23 RB5/AN13/CPS5/P2B/CCP3/P3AT1G/COM1 (io), 24 RB6/ICSPCLK/ICDCLK/SEG14 (io), 25 RB7/ICSPDAT/ICDDAT/SEG13 (io), 26 RE3/~{MCLR}/VPP (in), 27 RA0/AN0/C12IN0-/C2OUT/SRNQ/~{SS}/VCAP/SEG12 (io), 28 RA1/AN1/C12IN1-/SEG7/ (io), 29 Thermal Pad